# Altium schematic symbol library Componentes_SOC.SchLib: 216 symbols (part 2 of 3)
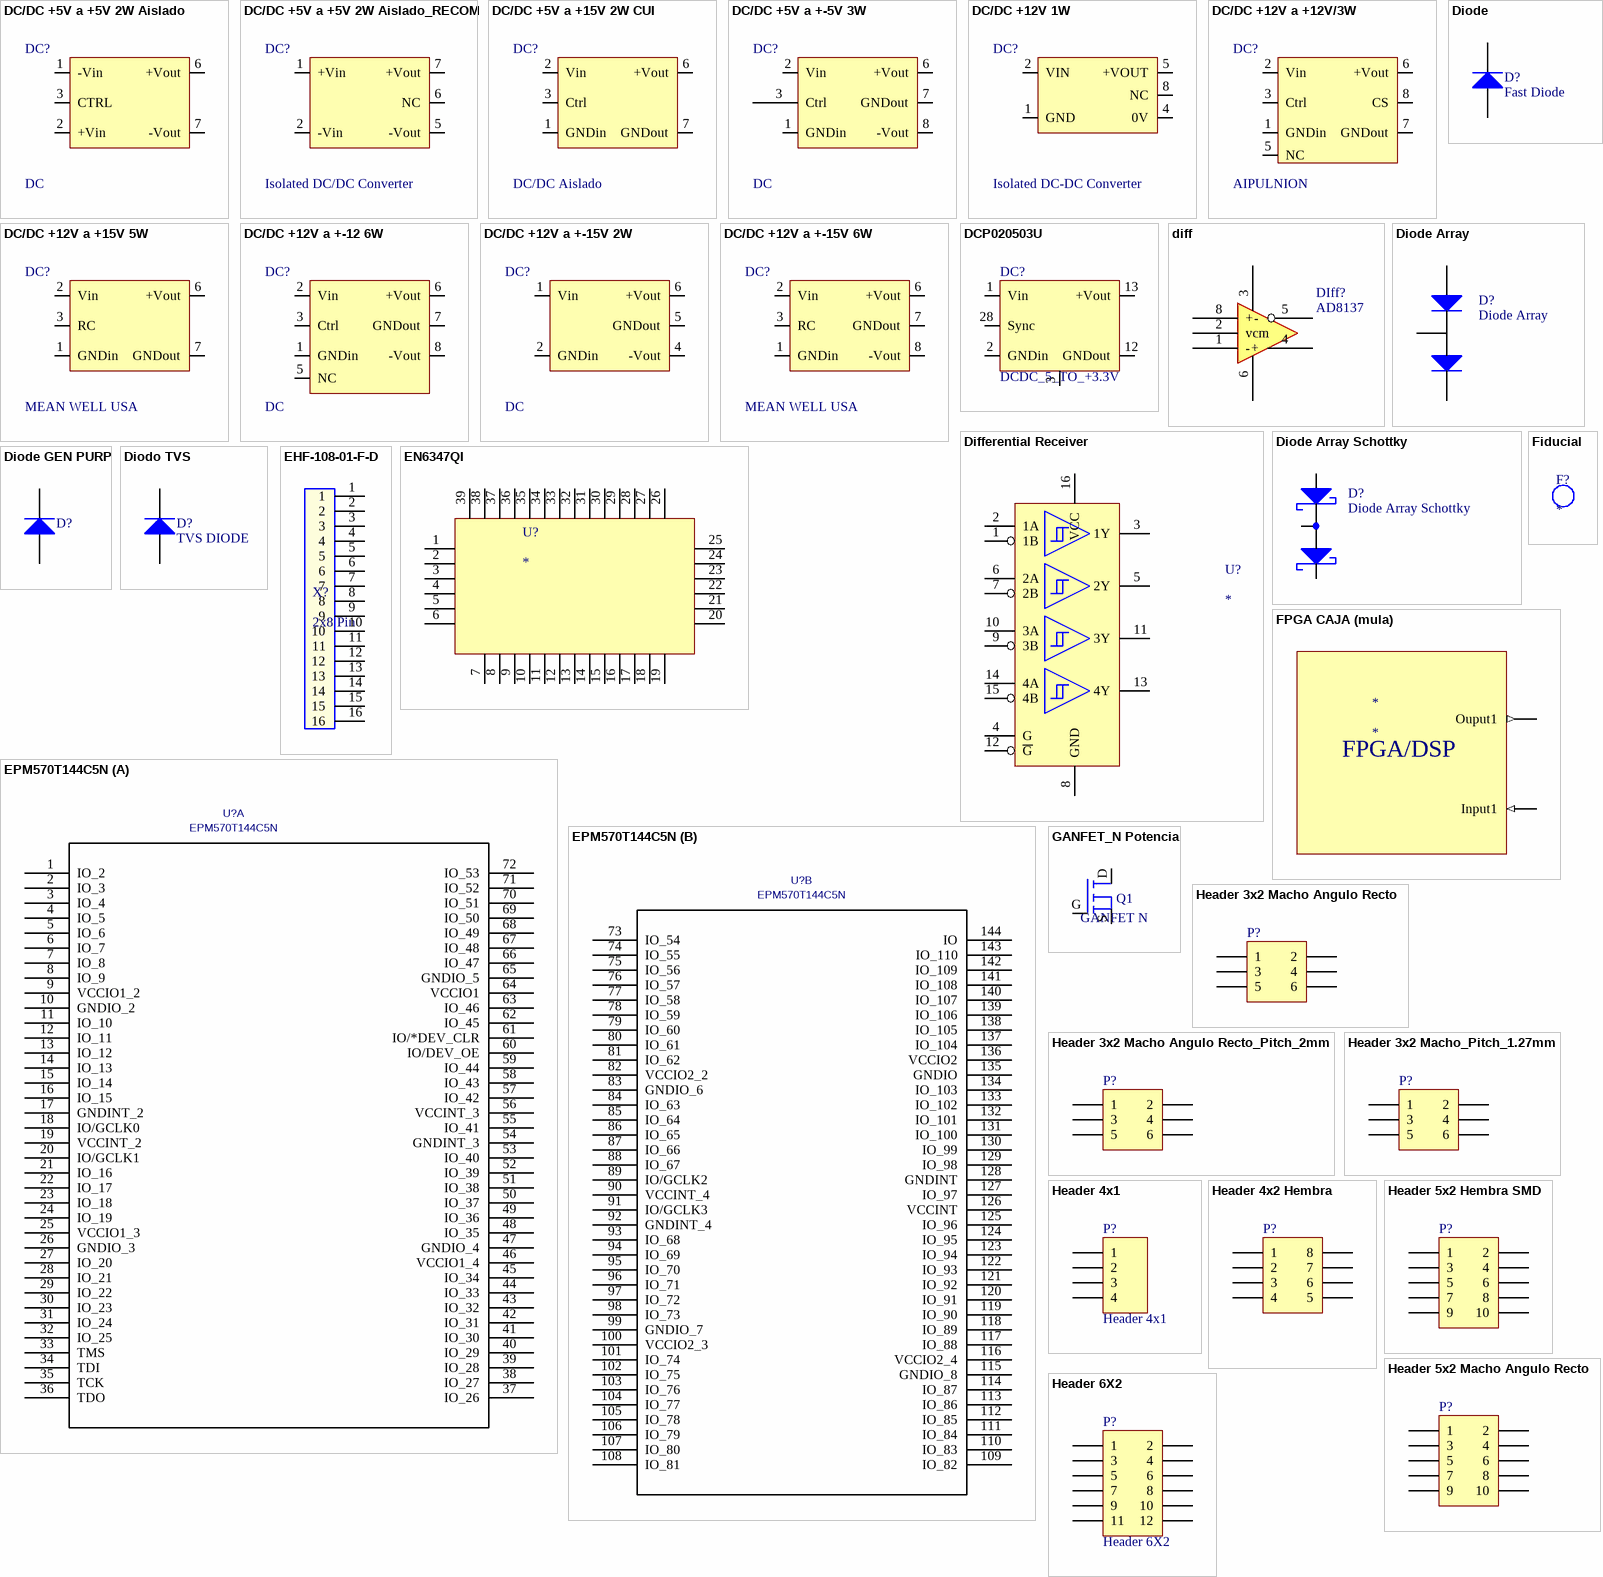
[diagram p11: symbols DC/DC +5V a +5V 2W Aislado to Header 6X2]

## Diode Array
designator D?
DIODE ARRAY GP 100V 215MA SOT23; Manufacturer Part-Number: BAV99,235; Digikey Part-Number: 1727-4311-1-ND
footprint SOT-23 (SOT23, 3-Leads, Body 2.9x1.3mm, Pitch 0.95mm, Lead Span 2.5mm, IPC Medium Density)
pins: 1, 2, 3

## Diode Array Schottky
designator D?
DIODE SCHOTTKY 70V DUAL SOT23; Manufacturer Part-Number: SBAS70-04LT1G; Digikey Part-Number: SBAS70-04LT1GOSCT-ND
footprint SOT-23 (SOT23, 3-Leads, Body 2.9x1.3mm, Pitch 0.95mm, Lead Span 2.5mm, IPC Medium Density)
pins: 1, 2, 3

## Diode GEN PURP
designator D?
DIODE GEN PURP 100V 200MA SOT23; Manufacturer Part-Number: BAS16LT1G; Digikey Part-Number: BAS16LT1GOSCT-ND
footprint SOT-23 (SOT23, 3-Leads, Body 2.9x1.3mm, Pitch 0.95mm, Lead Span 2.5mm, IPC Medium Density)
pins: 1 A, 2 NC hidden, 3 K

## Diodo TVS
designator D?, comment TVS DIODE
TVS DIODE 3.3V 19V SOD323; Manufacturer Part-Number: CDSOD323-T03C; Digikey Part-Number: CDSOD323-T03CCT-ND
footprint SOD-323
pins: 1 K, 2 A

## EHF-108-01-F-D
designator X?, comment 2x8 Pin
Dual Row, 2x8 Shrouded IDC Header with Ejectors 50 mil pitch; MPN: EHF-108-01-F-D; MF: Samtec; Created: 2020_05_Kreppel; Supplier 1: Digikey; Supplier Part Number 1: SAM9265-ND
footprint EHF-108-01-F-D
footprint EHF-108-01-F-D-SM
pins: 1, 2, 3, 4, 5, 6, 7, 8, 9, 10, 11, 12, 13, 14, 15, 16

## EN6347QI
designator U?
DC/DC CONVERTER 0.6-6.24V 25W; Digikey Part-Number: 544-2863-1-ND
footprint 38-QFN (7x4)
pins: 1, 2, 3, 4, 5, 6, 7, 8, 9, 10, 11, 12, 13, 14, 15, 16, 17, 18, 19, 20, 21, 22, 23, 24, 25, 26, 27, 28, 29, 30, 31, 32, 33, 34, 35, 36, 37, 38, 39

## EPM570T144C5N
designator U?
CPLD Altera MAXII; C: Copyright (C) 2015 Accelerated Designs. All rights reserved; Built_By: EMA_UL_Team; Value: EPM570T144C5N; Vendor: Altera; Manufacturer Part-Number: EPM570T144C5N; Digikey Part-Number: 544-1320-ND
footprint 144-TQFP (Pitch 0.5mm)
part A pins: 1 IO_2, 2 IO_3, 3 IO_4, 4 IO_5, 5 IO_6, 6 IO_7, 7 IO_8, 8 IO_9, 9 VCCIO1_2, 10 GNDIO_2, 11 IO_10, 12 IO_11, 13 IO_12, 14 IO_13, 15 IO_14, 16 IO_15, 17 GNDINT_2, 18 IO/GCLK0, 19 VCCINT_2, 20 IO/GCLK1, 21 IO_16, 22 IO_17, 23 IO_18, 24 IO_19, 25 VCCIO1_3, 26 GNDIO_3, 27 IO_20, 28 IO_21, 29 IO_22, 30 IO_23, 31 IO_24, 32 IO_25, 33 TMS, 34 TDI, 35 TCK, 36 TDO, 37 IO_26, 38 IO_27, 39 IO_28, 40 IO_29, 41 IO_30, 42 IO_31, 43 IO_32, 44 IO_33, 45 IO_34, 46 VCCIO1_4, 47 GNDIO_4, 48 IO_35, 49 IO_36, 50 IO_37, 51 IO_38, 52 IO_39, 53 IO_40, 54 GNDINT_3, 55 IO_41, 56 VCCINT_3, 57 IO_42, 58 IO_43, 59 IO_44, 60 IO/DEV_OE, 61 IO/*DEV_CLR, 62 IO_45, 63 IO_46, 64 VCCIO1, 65 GNDIO_5, 66 IO_47, 67 IO_48, 68 IO_49, 69 IO_50, 70 IO_51, 71 IO_52, 72 IO_53
part B pins: 73 IO_54, 74 IO_55, 75 IO_56, 76 IO_57, 77 IO_58, 78 IO_59, 79 IO_60, 80 IO_61, 81 IO_62, 82 VCCIO2_2, 83 GNDIO_6, 84 IO_63, 85 IO_64, 86 IO_65, 87 IO_66, 88 IO_67, 89 IO/GCLK2, 90 VCCINT_4, 91 IO/GCLK3, 92 GNDINT_4, 93 IO_68, 94 IO_69, 95 IO_70, 96 IO_71, 97 IO_72, 98 IO_73, 99 GNDIO_7, 100 VCCIO2_3, 101 IO_74, 102 IO_75, 103 IO_76, 104 IO_77, 105 IO_78, 106 IO_79, 107 IO_80, 108 IO_81, 109 IO_82, 110 IO_83, 111 IO_84, 112 IO_85, 113 IO_86, 114 IO_87, 115 GNDIO_8, 116 VCCIO2_4, 117 IO_88, 118 IO_89, 119 IO_90, 120 IO_91, 121 IO_92, 122 IO_93, 123 IO_94, 124 IO_95, 125 IO_96, 126 VCCINT, 127 IO_97, 128 GNDINT, 129 IO_98, 130 IO_99, 131 IO_100, 132 IO_101, 133 IO_102, 134 IO_103, 135 GNDIO, 136 VCCIO2, 137 IO_104, 138 IO_105, 139 IO_106, 140 IO_107, 141 IO_108, 142 IO_109, 143 IO_110, 144 IO

## Fiducial
designator F?  (no BOM)
Fiducial for Assembler
footprint Fiducial_1.7mm (Fiducial)

## FPGA CAJA (mula)
designator *
pins: 16 Ouput1 (out), 16 Input1 (in)
text: FPGA/DSP

## GANFET_N Potencia
designator Q1, comment GANFET N
GANFET N-CH 650V 27A TO220; Manufacturer Part-Number: TPH3212PS; Digikey Part-Number: TPH3212PS-ND
footprint TO-220 con disipador
pins: D, G, S

## Header 3x2 Macho Angulo Recto
designator P?, comment Connector Header Through Hole, Right Angle 6 position 0.100" (2.54mm)  (value not drawn)
CONN HEADER R/A 10POS 2.54MM; Manufacturer Part-Number: TSW-103-08-F-D-RA; Digikey Part-Number: SAM10330-ND
footprint Header 3x2 Macho angulo recto (P/N: TSW-103-08-F-D-RA)
pins: 1, 2, 3, 4, 5, 6

## Header 3x2 Macho Angulo Recto_Pitch_2mm
designator P?, comment Connector Header Through Hole, Right Angle 6 position 0.0.79" (2mm)  (value not drawn)
Connector Header Through Hole, Right Angle 6 position 0.079" (2.00mm); Manufacturer Part-Number: 0877600616; Digikey Part-Number: WM18613-ND
footprint Header 3x2 Macho angulo recto Pitch 2mm (P/N: 0877600616)
pins: 1, 2, 3, 4, 5, 6

## Header 3x2 Macho_Pitch_1.27mm
designator P?, comment Connector Header Through Hole, Right Angle 6 position 0.0.79" (2mm)  (value not drawn)
Connector Header Through Hole 6 position 0.050" (1.27mm); Manufacturer Part-Number: GRPB032VWVN-RC; Digikey Part-Number: S9015E-03-ND
footprint Header 3x2 Macho Pitch 1.27mm (P/N: GRPB032VWVN-RC)
pins: 1, 2, 3, 4, 5, 6

## Header 4x1
designator P?
Header macho 4x1 SMD pitch 2.54mm; Manufacturer Part-Number: TSM-104-01-T-SV; LatestRevisionDate: 17-Jul-2002; LatestRevisionNote: Re-released for DXP Platform.; Publisher: Altium Limited; Digikey Part-Number: SAM8983-ND
footprint Header 4 posiciones macho SMD (Pitch 2.54mm)
signal-integrity model Connector
pins: 1, 2, 3, 4

## Header 4x2 Hembra
designator P?
Pitch 2.54mm; Manufacturer Part-Number: PPPC042LFBN-RC; Digikey Part-Number: S7107-ND
footprint Header 4x2 hembra (Pitch 2.54mm)
pins: 1, 2, 3, 4, 5, 6, 7, 8

## Header 5x2 Hembra SMD
designator P?, comment CONN HEADER R/A 10POS 2.54MM  (value not drawn)
CONN RCPT 10POS 0.1 GOLD SMD; Manufacturer Part-Number: SSW-105-22-G-D-VS; Digikey Part-Number: SAM11937-ND
footprint Header 5x2 hembra SMD (Pitch 2.54mm P/N: SSW-105-22-G-D-VS)
pins: 1, 2, 3, 4, 5, 6, 7, 8, 9, 10

## Header 5x2 Macho Angulo Recto
designator P?, comment CONN HEADER R/A 10POS 2.54MM  (value not drawn)
Manufacturer Part-Number: TSW-105-25-L-D-RA; Digikey Part-Number: SAM12322-ND
footprint Header 5x2 Macho angulo recto (P/N: TSW-105-25-L-D-RA)
pins: 1, 2, 3, 4, 5, 6, 7, 8, 9, 10

## Header 6X2
designator P?
Header, 6-Pin, Dual row; Manufacturer Part-Number: 0901310126; LatestRevisionDate: 17-Jul-2002; LatestRevisionNote: Re-released for DXP Platform.; Publisher: Altium Limited; Digikey Part-Number: WM50035-12-ND
signal-integrity model Connector
footprint Header 6x2 macho
pins: 1, 2, 3, 4, 5, 6, 7, 8, 9, 10, 11, 12

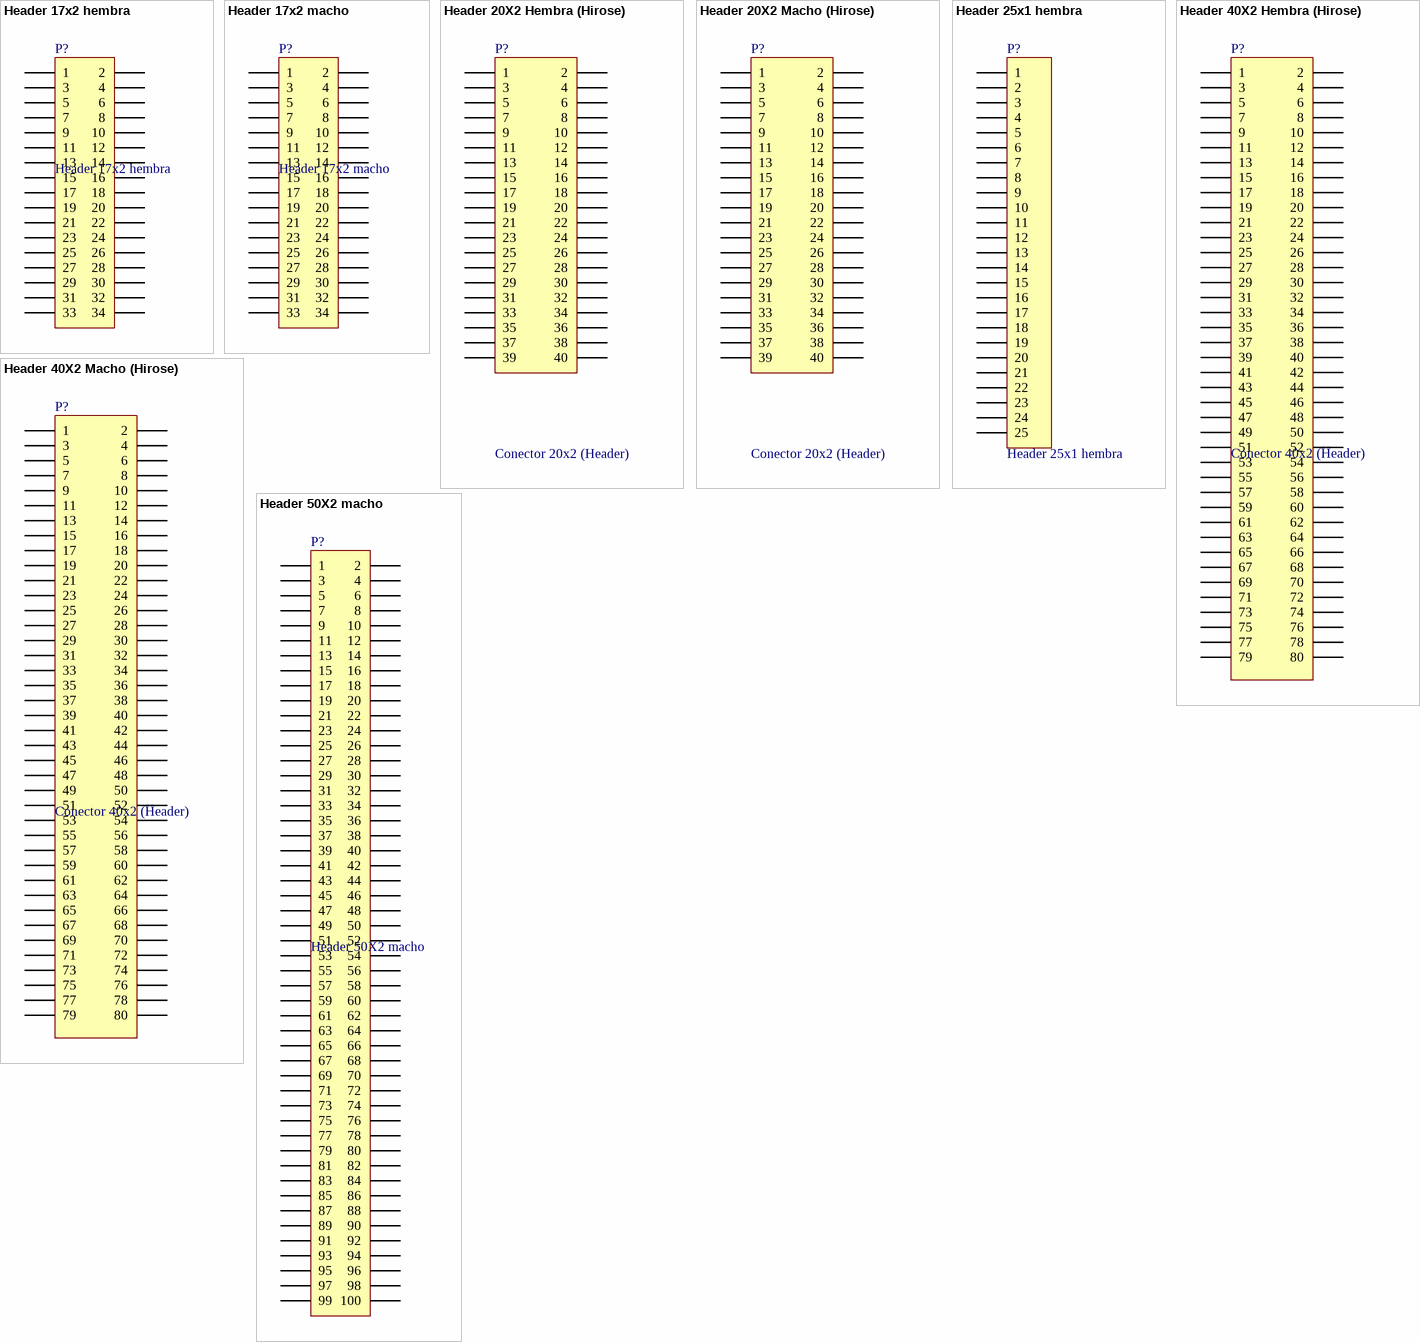
[diagram p6: symbols Header 17x2 hembra to Header 50X2 macho]

## Header 17x2 hembra
designator P?
Header, 17-Pin, Dual row; LatestRevisionDate: 17-Jul-2002; LatestRevisionNote: Re-released for DXP Platform.; Publisher: Altium Limited; Digikey Part-Number: SAM11105-ND
signal-integrity model Connector
footprint Header 17x2 hembra
pins: 1, 2, 3, 4, 5, 6, 7, 8, 9, 10, 11, 12, 13, 14, 15, 16, 17, 18, 19, 20, 21, 22, 23, 24, 25, 26, 27, 28, 29, 30, 31, 32, 33, 34

## Header 17x2 macho
designator P?
Header, 17-Pin, Dual row; LatestRevisionDate: 17-Jul-2002; LatestRevisionNote: Re-released for DXP Platform.; Publisher: Altium Limited; Digikey Part-Number: SAM1066-17-ND
signal-integrity model Connector
footprint Header 17x2 macho
pins: 1, 2, 3, 4, 5, 6, 7, 8, 9, 10, 11, 12, 13, 14, 15, 16, 17, 18, 19, 20, 21, 22, 23, 24, 25, 26, 27, 28, 29, 30, 31, 32, 33, 34

## Header 20X2 Hembra (Hirose)
designator P?, comment Conector 20x2 (Header)
CONN RCPT 40POS 0.5MM SMD; Manufacturer Part-Number: FX20-40S-0.5SV; LatestRevisionDate: 17-Jul-2002; LatestRevisionNote: Re-released for DXP Platform.; Publisher: Altium Limited; Digikey Part-Number: H122374-ND
signal-integrity model Connector
footprint Conector 40 Pines Hembra (SMD pitch 0.5mm 2 filas)
pins: 1, 2, 3, 4, 5, 6, 7, 8, 9, 10, 11, 12, 13, 14, 15, 16, 17, 18, 19, 20, 21, 22, 23, 24, 25, 26, 27, 28, 29, 30, 31, 32, 33, 34, 35, 36, 37, 38, 39, 40

## Header 20X2 Macho (Hirose)
designator P?, comment Conector 20x2 (Header)
CONN HDR 40POS 0.5MM SMD; Manufacturer Part-Number: FX20-40P-0.5SV15; LatestRevisionDate: 17-Jul-2002; LatestRevisionNote: Re-released for DXP Platform.; Publisher: Altium Limited; Digikey Part-Number: H122384-ND
signal-integrity model Connector
footprint Conector 40 Pines Macho (SMD pitch 0.5mm 2 filas)
pins: 1, 2, 3, 4, 5, 6, 7, 8, 9, 10, 11, 12, 13, 14, 15, 16, 17, 18, 19, 20, 21, 22, 23, 24, 25, 26, 27, 28, 29, 30, 31, 32, 33, 34, 35, 36, 37, 38, 39, 40

## Header 25x1 hembra
designator P?
Header 25x1 hembra pines largos; LatestRevisionDate: 17-Jul-2002; LatestRevisionNote: Re-released for DXP Platform.; Publisher: Altium Limited; Digikey Part-Number: SAM1125-25-ND
footprint Header 25x1 hembra (Contact Length - Post 16.66mm. Insulation Height 5.85mm)
signal-integrity model Connector
pins: 1, 2, 3, 4, 5, 6, 7, 8, 9, 10, 11, 12, 13, 14, 15, 16, 17, 18, 19, 20, 21, 22, 23, 24, 25

## Header 40X2 Hembra (Hirose)
designator P?, comment Conector 40x2 (Header)
CONN RCPT 80POS 0.5MM SMD; Manufacturer Part-Number: FX20-80S-0.5SV; LatestRevisionDate: 17-Jul-2002; LatestRevisionNote: Re-released for DXP Platform.; Publisher: Altium Limited; Digikey Part-Number: H122375-ND
signal-integrity model Connector
footprint Conector 80 Pines Hembra (SMD pitch 0.5mm 2 filas)
pins: 1, 2, 3, 4, 5, 6, 7, 8, 9, 10, 11, 12, 13, 14, 15, 16, 17, 18, 19, 20, 21, 22, 23, 24, 25, 26, 27, 28, 29, 30, 31, 32, 33, 34, 35, 36, 37, 38, 39, 40, 41, 42, 43, 44, 45, 46, 47, 48, 49, 50, 51, 52, 53, 54, 55, 56, 57, 58, 59, 60, 61, 62, 63, 64, 65, 66, 67, 68, 69, 70, 71, 72, 73, 74, 75, 76, 77, 78, 79, 80

## Header 40X2 Macho (Hirose)
designator P?, comment Conector 40x2 (Header)
CONN HDR 80POS 0.5MM SMD; Manufacturer Part-Number: FX20-80P-0.5SV15; LatestRevisionDate: 17-Jul-2002; LatestRevisionNote: Re-released for DXP Platform.; Publisher: Altium Limited; Digikey Part-Number: H122385-ND
signal-integrity model Connector
footprint Conector 80 Pines Macho (SMD pitch 0.5mm 2 filas)
pins: 1, 2, 3, 4, 5, 6, 7, 8, 9, 10, 11, 12, 13, 14, 15, 16, 17, 18, 19, 20, 21, 22, 23, 24, 25, 26, 27, 28, 29, 30, 31, 32, 33, 34, 35, 36, 37, 38, 39, 40, 41, 42, 43, 44, 45, 46, 47, 48, 49, 50, 51, 52, 53, 54, 55, 56, 57, 58, 59, 60, 61, 62, 63, 64, 65, 66, 67, 68, 69, 70, 71, 72, 73, 74, 75, 76, 77, 78, 79, 80

## Header 50X2 macho
designator P?
Header, 100-Pin, Dual row; LatestRevisionDate: 17-Jul-2002; LatestRevisionNote: Re-released for DXP Platform.; Publisher: Altium Limited; Digikey Part-Number: SAM12435-ND
signal-integrity model Connector
footprint Header 50x2 macho
pins: 1, 2, 3, 4, 5, 6, 7, 8, 9, 10, 11, 12, 13, 14, 15, 16, 17, 18, 19, 20, 21, 22, 23, 24, 25, 26, 27, 28, 29, 30, 31, 32, 33, 34, 35, 36, 37, 38, 39, 40, 41, 42, 43, 44, 45, 46, 47, 48, 49, 50, 51, 52, 53, 54, 55, 56, 57, 58, 59, 60, 61, 62, 63, 64, 65, 66, 67, 68, 69, 70, 71, 72, 73, 74, 75, 76, 77, 78, 79, 80, 81, 82, 83, 84, 85, 86, 87, 88, 89, 90, 91, 92, 93, 94, 95, 96, 97, 98, 99, 100

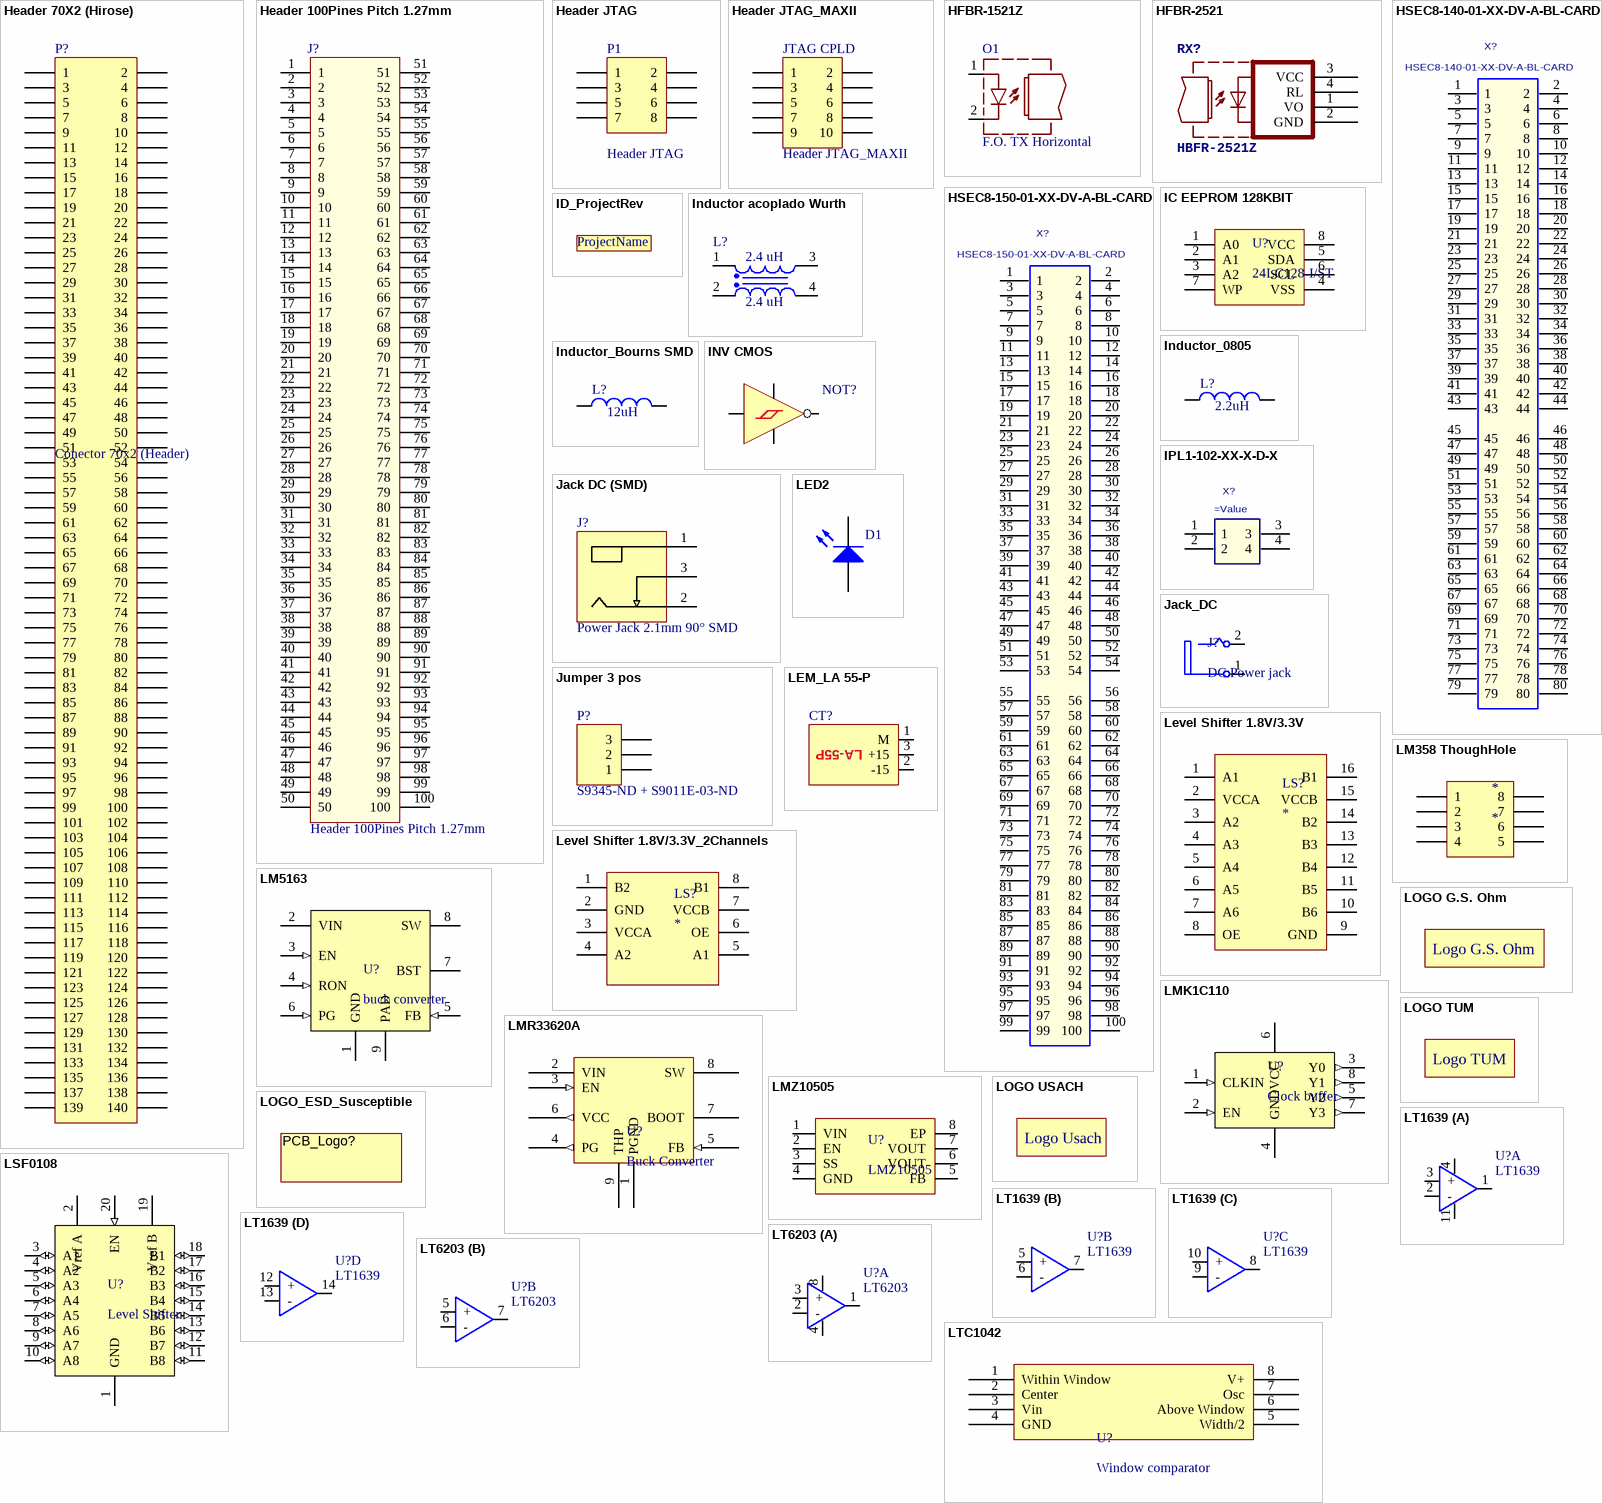
[diagram p7: symbols Header 70X2 (Hirose) to LTC1042]

## Header 70X2 (Hirose)
designator P?, comment Conector 70x2 (Header)
CONN HDR 140POS 0.5MM SMD; Manufacturer Part-Number: FX20-140P-0.5SV15; LatestRevisionDate: 17-Jul-2002; LatestRevisionNote: Re-released for DXP Platform.; Publisher: Altium Limited; Digikey Part-Number: H122387-ND
signal-integrity model Connector
footprint Conector 140Pines Macho (SMD pitch 0.5mm 2 filas)
pins: 1, 2, 3, 4, 5, 6, 7, 8, 9, 10, 11, 12, 13, 14, 15, 16, 17, 18, 19, 20, 21, 22, 23, 24, 25, 26, 27, 28, 29, 30, 31, 32, 33, 34, 35, 36, 37, 38, 39, 40, 41, 42, 43, 44, 45, 46, 47, 48, 49, 50, 51, 52, 53, 54, 55, 56, 57, 58, 59, 60, 61, 62, 63, 64, 65, 66, 67, 68, 69, 70, 71, 72, 73, 74, 75, 76, 77, 78, 79, 80, 81, 82, 83, 84, 85, 86, 87, 88, 89, 90, 91, 92, 93, 94, 95, 96, 97, 98, 99, 100, 101, 102, 103, 104, 105, 106, 107, 108, 109, 110, 111, 112, 113, 114, 115, 116, 117, 118, 119, 120, 121, 122, 123, 124, 125, 126, 127, 128, 129, 130, 131, 132, 133, 134, 135, 136, 137, 138, 139, 140

## Header 100Pines Pitch 1.27mm
designator J?
6-104068-7; Digikey Part-Number: A33560-ND; Manufacturer Part-Number: 6-104068-7
footprint Conector TE 100pines (2 filas) Pitch: 1.27mm (P/N: 6-104068-7)
pins: 1, 2, 3, 4, 5, 6, 7, 8, 9, 10, 11, 12, 13, 14, 15, 16, 17, 18, 19, 20, 21, 22, 23, 24, 25, 26, 27, 28, 29, 30, 31, 32, 33, 34, 35, 36, 37, 38, 39, 40, 41, 42, 43, 44, 45, 46, 47, 48, 49, 50, 51, 52, 53, 54, 55, 56, 57, 58, 59, 60, 61, 62, 63, 64, 65, 66, 67, 68, 69, 70, 71, 72, 73, 74, 75, 76, 77, 78, 79, 80, 81, 82, 83, 84, 85, 86, 87, 88, 89, 90, 91, 92, 93, 94, 95, 96, 97, 98, 99, 100

## Header JTAG
designator P1
Header, 8-Pin, Dual row, Right Angle; Manufacturer Part-Number: TSW-104-22-G-D-RA; LatestRevisionDate: 17-Jul-2002; LatestRevisionNote: Re-released for DXP Platform.; Publisher: Altium Limited; Digikey Part-Number: SAM12314-ND
signal-integrity model Connector
footprint HEADER_JTAG (Connector; Header; 5x2 Position; Right Angle)
pins: 1, 2, 3, 4, 5, 6, 7, 8

## Header JTAG_MAXII
designator JTAG CPLD
Header, 5-Pin, Dual row, Vertical; Manufacturer Part-Number: 3020-10-0100-00; LatestRevisionDate: 17-Jul-2002; LatestRevisionNote: Re-released for DXP Platform.; Publisher: Altium Limited; Digikey Part-Number: 1175-1609-ND
footprint HEADER_JTAG - MAXII Vertical (Connector; Header; 5x2 Position)
signal-integrity model Connector
pins: 1, 2, 3, 4, 5, 6, 7, 8, 9, 10

## HFBR-1521Z
designator O1, comment F.O. TX Horizontal
HFBR-1521Z; Digikey Part-Number: 516-2043-ND
footprint HFBR-15X1V
pins: 1 A, 2 C

## HFBR-2521
designator RX?, comment HBFR-2521Z
Receptor optico horizontal; Digikey Part-Number: 516-2062-ND
footprint HFBR-15X1V
pins: 1 VO, 2 GND (power), 3 VCC (power), 4 RL

## HSEC8-140-01-XX-DV-A-BL-CARD
designator X?
Mating Card Layout for HSEC8-140-01-XX-DV-A-BL; Manufacturer: SAMTEC; Created: 2018_04_23_AGeiger; Value: HSEC8-140-01-XX-DV-A-BL-CARD
footprint HSEC8-140-01-XX-DV-A-BL-CARD
pins: 1, 2, 3, 4, 5, 6, 7, 8, 9, 10, 11, 12, 13, 14, 15, 16, 17, 18, 19, 20, 21, 22, 23, 24, 25, 26, 27, 28, 29, 30, 31, 32, 33, 34, 35, 36, 37, 38, 39, 40, 41, 42, 43, 44, 45, 46, 47, 48, 49, 50, 51, 52, 53, 54, 55, 56, 57, 58, 59, 60, 61, 62, 63, 64, 65, 66, 67, 68, 69, 70, 71, 72, 73, 74, 75, 76, 77, 78, 79, 80

## HSEC8-150-01-XX-DV-A-BL-CARD
designator X?
Mating Card Layout for HSEC8-150-01-XX-DV-A-BL; Manufacturer: SAMTEC; Created: 2018_04_23_AGeiger; Value: HSEC8-150-01-XX-DV-A-BL-CARD
footprint HSEC8-150-01-XX-DV-A-BL-CARD
pins: 1, 2, 3, 4, 5, 6, 7, 8, 9, 10, 11, 12, 13, 14, 15, 16, 17, 18, 19, 20, 21, 22, 23, 24, 25, 26, 27, 28, 29, 30, 31, 32, 33, 34, 35, 36, 37, 38, 39, 40, 41, 42, 43, 44, 45, 46, 47, 48, 49, 50, 51, 52, 53, 54, 55, 56, 57, 58, 59, 60, 61, 62, 63, 64, 65, 66, 67, 68, 69, 70, 71, 72, 73, 74, 75, 76, 77, 78, 79, 80, 81, 82, 83, 84, 85, 86, 87, 88, 89, 90, 91, 92, 93, 94, 95, 96, 97, 98, 99, 100

## IC EEPROM 128KBIT
designator U?, comment 24LC128-I/ST
Digikey Part-Number: 24LC128-I/ST-ND; Manufacturer Part-Number: 24LC128-I/ST
footprint 8-TSSOP (TSSOP, 8 Leads, Body 3.1x4.5mm (max), Pitch 0.65mm, IPC Medium Density)
pins: 1 A0, 2 A1, 3 A2, 4 VSS, 5 SDA, 6 SCL, 7 WP, 8 VCC

## ID_ProjectRev
designator ProjectName, comment Project Name, Rev  (value not drawn)  (no BOM)
Project Name and Revision Number; Created: 2018_11_23_AGeiger; Value: Project Name, Rev
footprint ID_ProjectRev (project name + revision number)

## Inductor acoplado Wurth
designator L?, comment Inductance 1: 2.4 uH  (hidden comment: SMT Shielded Coupled Inductor WE-DD, size 1280, 2.4 uH, 7.8 A)
744870002; Rated Current 1: 7.8 A; DC Resistance max. 1: 0.018 Ohm; Rated Voltage: 80 VDC; Saturation Current: 15 A; Turns Ratio: 1:1; Self Resonant Frequency: 40 MHz; ComponentLink1Description: Manufacturer; ComponentLink1URL: http://www.we-online.de; ComponentLink2Description: Datasheet; ComponentLink2URL: https://katalog.we-online.com/pbs/datasheet/744870002.pdf; Manufacturer Part-Number: 744870002; Published Date: December 2018; Publisher: Wurth Elektronik; Size: 1280; Operating Temperature: -40 to +125 degC; Mounting Technology: SMT; Packaging: Tape and Reel; DC Resistance max. 2: 0.018 Ohm; Rated Current 2: 7.8 A; Inductance 2: 2.4 uH
footprint Inductor acoplado (P/N: 744874002 SMT Shielded Coupled Inductor, 4-Leads, body 12.5x12.5mm)
pins: 1, 2, 3, 4

## Inductor_0805
designator L?, comment 2.2uH
700mA; Manufacturer Part-Number: 74479775222; Code_IEC: 1005; Published: 8-Jun-2000; LatestRevisionDate: 29-May-2009; LatestRevisionNote: IPC-7351 Footprint Added.; PackageReference: 0402-A; Publisher: Altium Limited; PackageDescription: Chip Inductor; Code_JEITA: 0402; Digikey Part-Number: 732-2953-1-ND; Value: 2.2uH
simulation model INDUCTOR (Inductor)
signal-integrity model Inductor
footprint INDUCTOR_0805 (Wurth)
pins: 1, 2

## Inductor_Bourns SMD
designator L?, comment 12uH
1.7A; Manufacturer Part-Number: SRR6038-120Y; Digikey Part-Number: SRR6038-120YCT-ND; Value: 12uH
simulation model INDUCTOR (Inductor)
signal-integrity model Inductor
footprint Inductor Bourns SMD (6.8x6.8mm P/N: SRR6038-120Y)
pins: 1, 2

## INV CMOS
designator NOT?, comment INV_CMOS  (value not drawn)
Part-Number Fabricante: BU4S584G2-TR; Digikey Part-Number: BU4S584G2CT-ND
footprint INV_SN74AHC1G14DBVR (IC SCHMITT-TRG INV GATE SOT23-5)
pins: 1 NC hidden, 2 A, 3 GND, 4 Vcc, 5 Vcc

## IPL1-102-XX-X-D-X
designator X?
2.54mm Double Row Terminal Assembly, Right-Angled; Manufacturer: SAMTEC; Created: 2018_05_02_AGeiger; Value: =MPN
footprint IPL1-102-01-L-D-K
footprint IPL1-102-01-L-D-RA-K
pins: 1, 2, 3, 4

## Jack DC (SMD)
designator J?, comment Power Jack 2.1mm 90° SMD
AN: 26873; Mixed: SMT; Trenz-Stock: Yes; H-ART: 694106106102; HelpURL: B:\ad\adlib\datasheet\694106106102
footprint 694106106102
pins: 1, 2, 3

## Jack_DC
designator J?, comment DC Power jack
Conector Alimentación externa; Manufacturer Part-Number: PJ-037BH; Digikey Part-Number: CP-037BH-ND
footprint JACK_DC_2 (Conector alimentacion externa)
pins: 1 (power) "Sleeve (Ground)", 2 "Tip Normal (Break Contact)"

## Jumper 3 pos
designator P?, comment S9345-ND + S9011E-03-ND
SMD Macho Pitch 1.27mm; LatestRevisionDate: 17-Jul-2002; LatestRevisionNote: Re-released for DXP Platform.; Publisher: Altium Limited
footprint Header 3 posiciones macho SMD (Pitch 1.27mm)
signal-integrity model Connector
pins: 1, 2, 3

## LED2
designator D1, comment LED  (value not drawn)
LED Magenta; Manufacturer Part-Number: LTST-C171GKT; Published: 8-Jun-2000; LatestRevisionDate: 17-Jul-2002; LatestRevisionNote: Re-released for DXP Platform.; PackageDocument: Feb-2002; PackageReference: 3.2X1.6X1.1; Publisher: Altium Limited; Digikey Part-Number: 160-1423-1-ND
simulation model LED2 (Diode)
footprint LED_0805_GREEN (Chip LED, 2-Leads, Body 2.0x1.3mm, IPC Medium Density)
pins: 1 A, 2 K

## LEM_LA 55-P
designator CT?, comment Current Sensor 50A 1 Channel Hall Effect, Closed Loop Bidirectional Module  (value not drawn)
LA 55-P; Manufacturer: LEM USA Inc.; Manufacturer Part-Number: LA 55-P; Digikey Part-Number: 398-1010-ND
footprint LEM_LA 55-P (SENSOR CURRENT 50A TH)
pins: 1 M, 2 -15, 3 +15
text: LA-55P

## Level Shifter 1.8V/3.3V
designator LS?
Level shifter bidireccional 6 canales; Digikey Part-Number: 296-23759-1-ND
footprint TSSO5x6-G16 (Shrink Small Outline; 16 Leads; Body Width 4.4 mm; Pitch 0.65 mm)
pins: 1 A1, 2 VCCA, 3 A2, 4 A3, 5 A4, 6 A5, 7 A6, 8 OE, 9 GND, 10 B6, 11 B5, 12 B4, 13 B3, 14 B2, 15 VCCB, 16 B1

## Level Shifter 1.8V/3.3V_2Channels
designator LS?
Level shifter bidireccional 2 canales; Manufacturer Part-Number: TXB0102DCUR; Digikey Part-Number: 296-22862-1-ND
footprint 8-VSSOP (VSSOP, 8 Leads, Pitch 0.5mm)
pins: 1 B2, 2 GND, 3 VCCA, 4 A2, 5 A1, 6 OE, 7 VCCB, 8 B1

## LM358 ThoughHole
designator *
footprint DIP8
pins: 1, 2, 3, 4, 5, 6, 7, 8

## LM5163
designator U?, comment buck converter
100V Input, 0.5A Synchronous Buck DC/DC Converter with Ultra-low Iq; MPN: LM5163DDAR; MF: Texas Instruments; Created: 2020_05_Kreppel; Supplier 1: Digikey; Supplier Part Number 1: 296-LM5163DDARCT-ND*
footprint SOIC127P600X170_HS-9N (SOIC, 8-Leads, Body 4,90x3,90mm, Pitch 1,27mm, Thermal Pad 3,10x2,60mm, IPC Medium Density)
pins: 1 GND (power), 2 VIN (power), 3 EN (in), 4 RON (in), 5 FB (in), 6 PG (in), 7 BST (power), 8 SW (power), 9 PAD (power)

## LMK1C110
designator U?, comment Clock buffer
1:4 LVCMOS clovk buffer, low-sekw, general-purpose; MPN: LMK1C110; MF: Texas Instruments; Created: 2020_05_Kreppel; Supplier 1: Digikey; Supplier Part Number 1: 296-LMK1C1104PWRCT-ND
footprint TSOP65P640X120-8N (TSOP, 8-Leads, Body 3,00x4,40mm, Pitch 0,65mm, IPC Medium Density)
pins: 1 CLKIN (in), 2 EN (in), 3 Y0 (out), 4 GND (power), 5 Y2 (out), 6 VCC (power), 7 Y3 (out), 8 Y1 (out)

## LMR33620A
designator U?, comment Buck Converter
3.8V to 36V, 2A synchronous step-down converter; MPN: LMR33620A; MF: Texas Instruments; Switching frequency: 400kHz; Created: 4/20 Kreppel; Supplier 1: Digikey; Supplier Part Number 1: 296-51355-1-ND
footprint SOIC127P600X170_HS-9N (SOIC, 8-Leads, Body 4,90x3,90mm, Pitch 1,27mm, Thermal Pad 3,10x2,60mm, IPC Medium Density)
pins: 1 PGND (power), 2 VIN (power), 3 EN (in), 4 PG (out), 5 FB (in), 6 VCC (out), 7 BOOT (power), 8 SW (power), 9 THP

## LMZ10505
designator U?
DC-DC Buck Variable; Manufacturer Part-Number: LMZ10505TZ-ADJ/NOPB; Digikey Part-Number: LMZ10505TZ-ADJ/NOPBCT-ND
footprint TO-PMOD-7
pins: 1 VIN, 2 EN, 3 SS, 4 GND, 5 FB, 6 VOUT, 7 VOUT, 8 EP

## LOGO G.S. Ohm
designator *  (value not drawn)  (no BOM)
footprint Logo G.S.Ohm University (9.5 x 12.6 mm)
text: Logo G.S. Ohm

## LOGO TUM
designator *  (value not drawn)  (no BOM)
footprint Logo TUM (9.5 x 12.6 mm)
text: Logo TUM

## LOGO USACH
designator *  (value not drawn)  (no BOM)
footprint Logo Usach
text: Logo Usach

## LOGO_ESD_Susceptible
designator PCB_Logo?, comment ESD Susceptible  (value not drawn)  (no BOM)
ESD Susceptible Symbol; Created: 2018_11_25_AGeiger; Value: ESD Susceptible
footprint ESD_Overlay_Medium

## LSF0108
designator U?, comment Level Shifter
8-Channel, Bidirectional, Low Delay, Multi-Voltage Level Translator; MPN: LSF0108PWR; MF: Texas Instruments; Created: 2020_05_Kreppel; Supplier 1: Digikey; Supplier Part Number 1: 296-37828-1-ND
footprint TSOP65P640X120-20N (TSOP, 20-Leads, Body 6,50x4,40mm, Pitch 0,65mm, IPC Medium Density)
pins: 1 GND (power), 2 Vref A (power), 3 A1 (io), 4 A2 (io), 5 A3 (io), 6 A4 (io), 7 A5 (io), 8 A6 (io), 9 A7 (io), 10 A8 (io), 11 B8 (io), 12 B7 (io), 13 B6 (io), 14 B5 (io), 15 B4 (io), 16 B3 (io), 17 B2 (io), 18 B1 (io), 19 Vref B (power), 20 EN (in)

## LT1639
designator U?
IC OPAMP GP 4 CIRCUIT 14SO; Manufacturer Part-Number: LT1639HS#PBF; Digikey Part-Number: LT1639HS#PBF-ND
footprint SOIC-14 (SOIC, 14-Leads, Body 8.7x3.9mm, Pitch 1.27mm, IPC Medium Density)
part A pins: 1, 2 -, 3 +, 4 V+, 11 V-
part B pins: 5 +, 6 -, 7
part C pins: 8, 9 -, 10 +
part D pins: 12 +, 13 -, 14

## LT6203
designator U?
IC OPAMP GP 2 CIRCUIT 8MSOP; Manufacturer Part-Number: LT6203CMS8#PBF; Digikey Part-Number: LT6203CMS8#PBF-ND
footprint 8-MSOP (8 Leads, Body 3.1x4.5mm (max), Pitch 0.65mm, IPC Medium Density)
part A pins: 1, 2 -, 3 +, 4, 8
part B pins: 5 +, 6 -, 7

## LTC1042
designator U?, comment Window comparator
Comparador de ventana; Digikey Part-number: LTC1042CN8#PBF-ND
pins: 1 Within Window, 2 Center, 3 Vin, 4 GND, 5 Width/2, 6 Above Window, 7 Osc, 8 V+

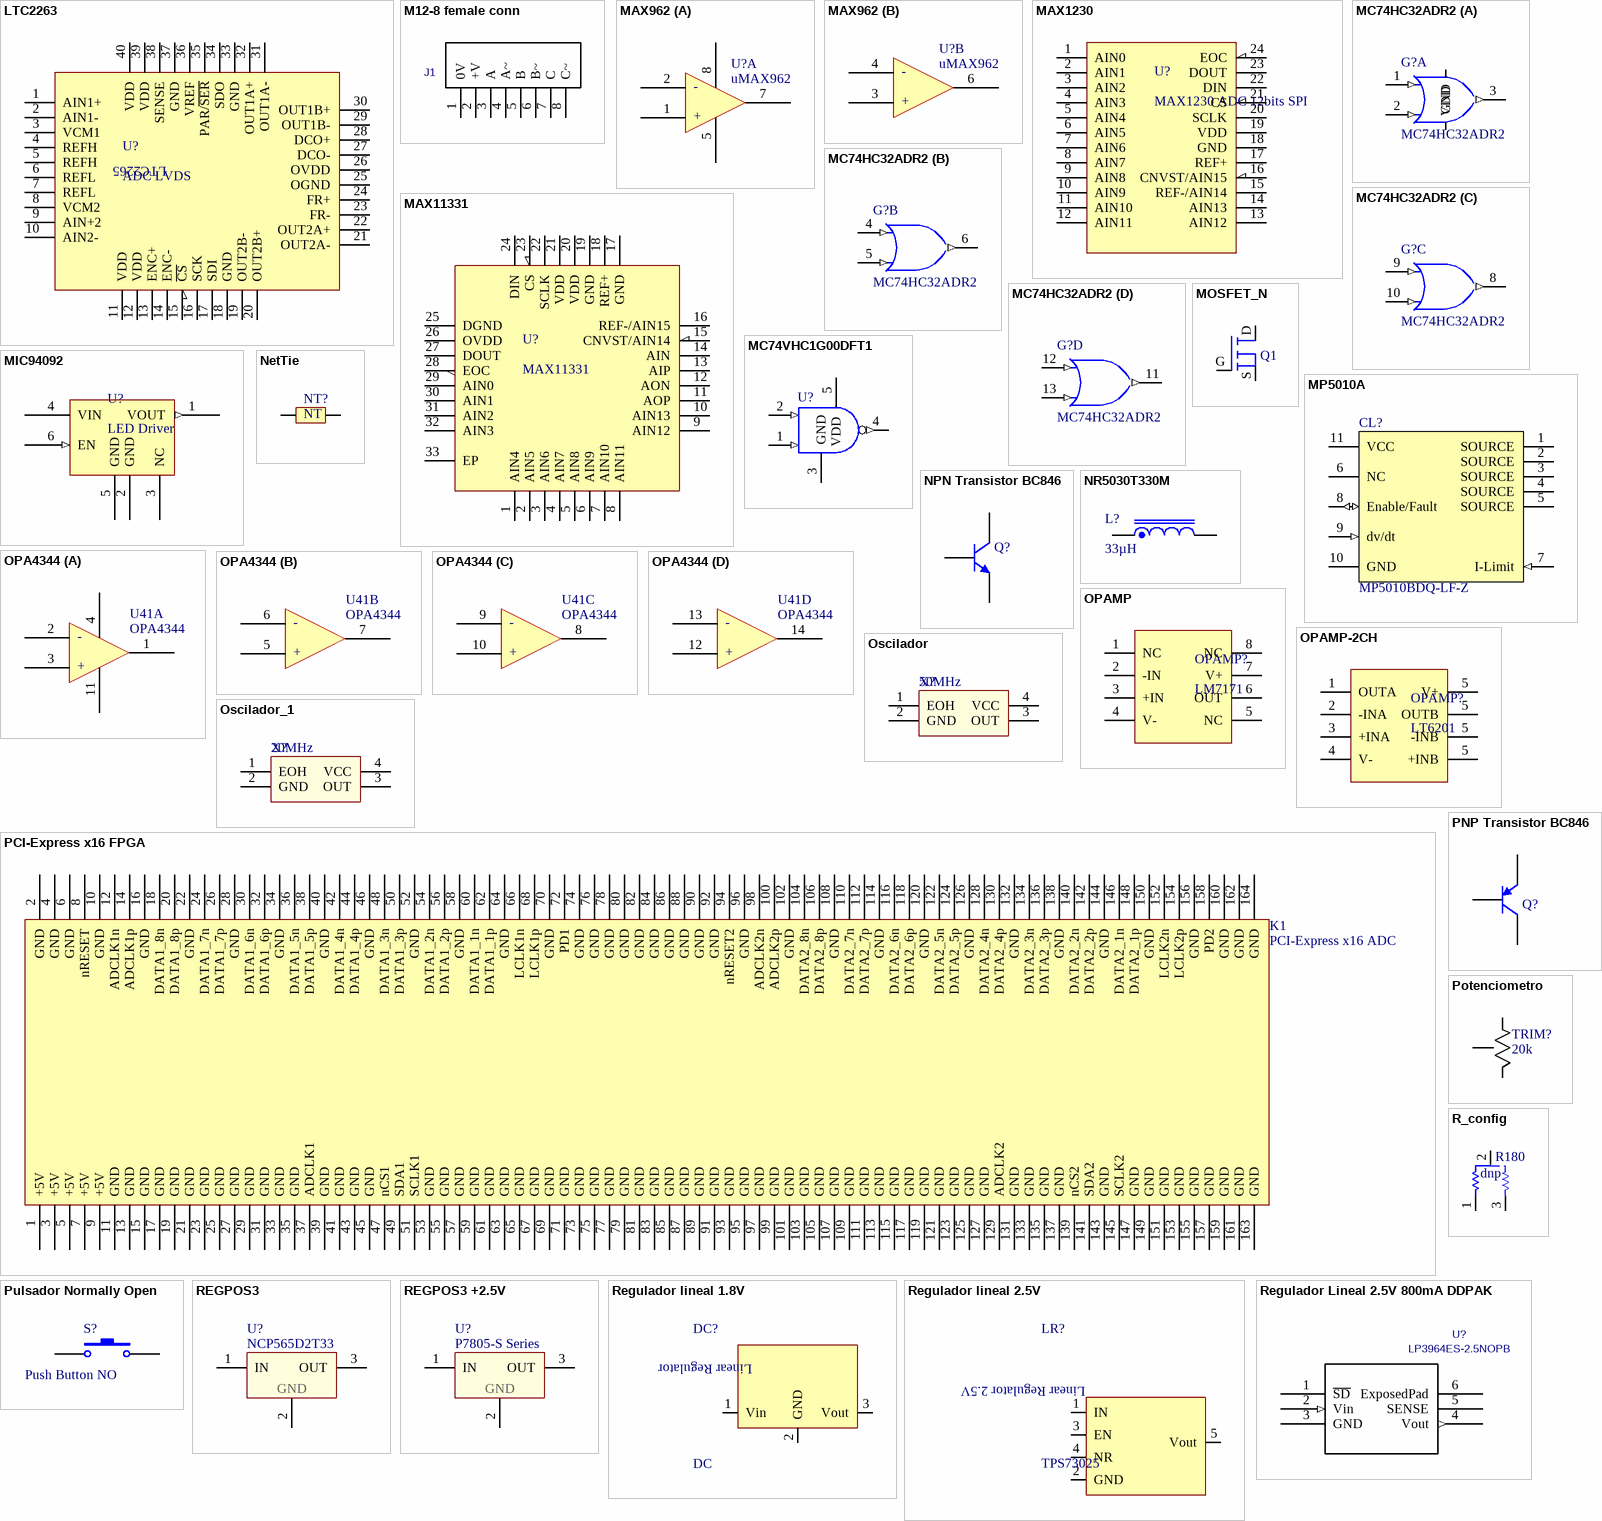
[diagram p8: symbols LTC2263 to Regulador Lineal 2.5V 800mA DDPAK]

## LTC2263
designator U?, comment ADC LVDS
ADC 12 bits SPI LVDS; Digikey Part-Number: LTC2263CUJ-12#PBF-ND
pins: 1 AIN1+, 2 AIN1-, 3 VCM1, 4 REFH, 5 REFH, 6 REFL, 7 REFL, 8 VCM2, 9 AIN+2, 10 AIN2-, 11 VDD, 12 VDD, 13 ENC+, 14 ENC-, 15 ~{CS}, 16 SCK, 17 SDI, 18 GND, 19 OUT2B-, 20 OUT2B+, 21 OUT2A-, 22 OUT2A+, 23 FR-, 24 FR+, 25 OGND, 26 OVDD, 27 DCO-, 28 DCO+, 29 OUT1B-, 30 OUT1B+, 31 OUT1A-, 32 OUT1A+, 33 GND, 34 SDO, 35 PAR/~{SER}, 36 VREF, 37 GND, 38 SENSE, 39 VDD, 40 VDD
text: LTC2265

## M12-8 female conn
designator J1, comment 5-2172071-2  (value not drawn)
Manufacturer: TE Connectivity AMP Connectors; Vendor: TE Connectivity; Value: 5-2172071-2; Manufacturer Part-Number: 5-2172071-2; Built_By: TE CONNECTIVITY; Digikey Part-Number: A121946-ND; RS Part Number: *
footprint M12 8 FEMALE
pins: 1 0V, 2 +V, 3 A, 4 A~, 5 B, 6 B~, 7 C, 8 C~
2 alternate drawings of the same symbol

## MAX962
designator U?, comment uMAX962
IC COMPARATOR BTR 8-UMAX; Manufacturer Part-Number: MAX962EUA+; Digikey Part-Number: MAX962EUA+-ND
footprint 8-MSOP (8 Leads, Body 3.1x4.5mm (max), Pitch 0.65mm, IPC Medium Density)
part A pins: 1 +in a, 2 -in a, 5 GND, 7 out a, 8 VCC
part B pins: 3 +IN B, 4 -IN B, 6 OUT B
part A text: -; +
part B text: -; +

## MAX1230
designator U?, comment MAX1230 ADC 12bits SPI
ADC 12 bits SPI; Digikey Part-Number: MAX1230BEEG+-ND
footprint SSOP24 (SSOP; 24 Leads; Body Width 5.3 mm; Pitch 0.65 mm)
pins: 1 AIN0, 2 AIN1, 3 AIN2, 4 AIN3, 5 AIN4, 6 AIN5, 7 AIN6, 8 AIN7, 9 AIN8, 10 AIN9, 11 AIN10, 12 AIN11, 13 AIN12, 14 AIN13, 15 REF-/AIN14, 16 CNVST/AIN15, 17 REF+, 18 GND, 19 VDD, 20 SCLK, 21 CS, 22 DIN, 23 DOUT, 24 EOC

## MAX11331
designator U?
ADC 12 bits SPI; Manufacturer Part-Number: MAX11331ATJ+; Digikey Part-Number: MAX11331ATJ+-ND
footprint 32-TQFN-EP (5x5) (QFN, 32-Leads with exposed die pad, Body 5.1x5.1mm (max), Pitch 0.50mm, IPC Medium Density)
footprint QFN50P500X500X80-33N-310
pins: 1 AIN4, 2 AIN5, 3 AIN6, 4 AIN7, 5 AIN8, 6 AIN9, 7 AIN10, 8 AIN11, 9 AIN12, 10 AIN13, 11 AOP, 12 AON, 13 AIP, 14 AIN, 15 CNVST/AIN14, 16 REF-/AIN15, 17 GND, 18 REF+, 19 GND, 20 VDD, 21 VDD, 22 SCLK, 23 CS, 24 DIN, 25 DGND, 26 OVDD, 27 DOUT, 28 EOC, 29 AIN0, 30 AIN1, 31 AIN2, 32 AIN3, 33 EP

## MC74HC32ADR2
designator G?
Quad 2-Input OR Gate; Published: 15-Apr-2002; LatestRevisionDate: 13-Apr-2006; LatestRevisionNote: IPC-7351 Footprint Added.; DatasheetVersion: Mar-2000; PackageReference: 751A-03; Publisher: Altium Limited; PackageDescription: 14-Pin Small Outline Integrated Circuit 1.27 mm Pitch; Code_JEDEC: MS-012-AB; Code_IPC: SOIC127P600-14; ComponentLink1Description: Manufacturer Link; ComponentLink1URL: http://www.onsemi.com/; ComponentLink2Description: Datasheet; ComponentLink2URL: http://www.onsemi.com/pub/Collateral/MC74HC32A-D.PDF; Digikey Part-Number: MC74HC32ADR2GOSCT-ND
signal-integrity model MC74HC32ADR2
footprint SOIC-14 (SOIC, 14-Leads, Body 8.7x3.9mm, Pitch 1.27mm, IPC Medium Density)
part A pins: 1 A (in), 2 B (in), 3 Y (out), 7 GND (power), 14 VDD (power)
part B pins: 4 A (in), 5 B (in), 6 Y (out)
part C pins: 8 Y (out), 9 A (in), 10 B (in)
part D pins: 11 Y (out), 12 A (in), 13 B (in)

## MC74VHC1G00DFT1
designator U?  (value not drawn)
2-Input NAND Gate; Manufacturer Part-Number: MC74VHC1G00DFT1G; Published: 15-Apr-2002; LatestRevisionDate: 12-Dec-2006; LatestRevisionNote: IPC-7351 Footprint Added.; DatasheetVersion: Dec-1999; PackageVersion: Oct-1999; PackageReference: 419A-01; Publisher: Altium Limited; PackageDescription: 5-Pin SOT-353 Package 0.65 mm Pitch, 2.1 mm Lead Span; ComponentLink1Description: Manufacturer Link; ComponentLink1URL: http://www.onsemi.com/; ComponentLink2Description: Datasheet; ComponentLink2URL: http://www.onsemi.com/pub/Collateral/MC74VHC1G00-D.PDF; Digikey Part-Number: MC74VHC1G00DFT1GOSTR-ND
footprint SOT-353 (SOT353, 5-Leads, Body 2x1.3mm, Pitch 0.65mm, Lead Span 2.1mm, IPC Medium Density)
pins: 1 B (in), 2 A (in), 3 GND (power), 4 ~{Y} (out), 5 VDD (power)

## MIC94092
designator U?, comment LED Driver
General Purpose High Side Load Switch; MPN: MIC94092YC6-TR; MF: Microchip Technologies; Created: 4/20 Kreppel; Supplier 1: Digikey; Supplier Part Number 1: 576-3488-1-ND
footprint SOT65P210X110-6N (SOT23, 6-Leads, Body 2,03x2,10mm, Pitch 0,65mm, IPC Medium Density)
pins: 1 VOUT (out), 2 GND (power), 3 NC, 4 VIN (power), 5 GND (power), 6 EN (in)

## MOSFET_N
designator Q1, comment MOSFET N  (value not drawn)
2N7002-FDICT-ND; Manufacturer Part-Number: 2N7002-7-F; Digikey Part-Number: 2N7002-FDICT-ND
footprint SOT23_MOD
pins: D, G, S

## MP5010A
designator CL?, comment MP5010BDQ-LF-Z
Current Limiter; AN: 28269; Mixed: SMT; Voltage: 5V; Case: DFN10; HelpURL: B:\AD\adlib\datasheet\MP5010; H-ART: MP5010BDQ-LF-Z; Digikey Part-Number: MP5010BDQ-LF-Z-ND; Manufacturer Part-Number: MP5010BDQ-LF-Z
footprint SON50P300X300X100-11N
pins: 1 SOURCE (power), 2 SOURCE (power), 3 SOURCE (power), 4 SOURCE (power), 5 SOURCE (power), 6 NC, 7 I-Limit (in), 8 Enable/Fault (io), 9 dv/dt (in), 10 GND (power), 11 VCC (power)

## NetTie
designator NT?  (net tie, no BOM)
footprint NetTie
pins: 1, 2
text: NT

## NPN Transistor BC846
designator Q?, comment Transistor NPN  (value not drawn)
NPN Bipolar Transistor; Manufacturer Part-Number: BC846BLT3G; Digikey Part-Number: BC846BLT3GOSCT-ND
footprint SOT-23 (SOT23, 3-Leads, Body 2.9x1.3mm, Pitch 0.95mm, Lead Span 2.5mm, IPC Medium Density)
pins: 1 B, 2 E, 3 C

## NR5030T330M
designator L?, comment 33µH
SMT power Inductor, 33µH, 225m DRC; MPN: NRS5030T330MMGJ; MF: Taiyo Yuden; DCR: 225mOhm; Rated Current: 0.8 A; Supplier 1: Digikey; Supplier Part Number 1: 587-3458-1-ND; Value: 33µH
footprint Inductor 5030
pins: 1, 2

## OPA4344
designator U41
opamp rai to rail 1mV; Manufacturer Part-Number: OPA4344EA/250; Digikey Part-Number: OPA4344EACT-ND
footprint TSSO5X6-G14/X.3 (Shrink Small Outline, TSSOP; 14 Leads; Body Width 4.4 mm; Pitch 0.65 mm)
part A pins: 1 out a, 2 -in a, 3 +in a, 4 v+, 11 v-
part B pins: 5 +in b, 6 -in b, 7 out b
part C pins: 8 out c, 9 -in c, 10 +in c
part D pins: 12 +in d, 13 -in d, 14 out d
part A text: -; +
part B text: -; +
part C text: -; +
part D text: -; +

## OPAMP
designator OPAMP?, comment LM7171
IC OPAMP VFB 200MHZ 8SOIC; Manufacturer Part-Number: LM7171AIM/NOPB; Digikey Part-Number: LM7171AIM/NOPB-ND
footprint SOIC8_N (SOIC, 8-Leads, Body 4.9x3.9mm, Pitch 1.27mm, IPC Medium Density)
pins: 1 NC, 2 -IN, 3 +IN, 4 V-, 5 NC, 6 OUT, 7 V+, 8 NC

## OPAMP-2CH
designator OPAMP?, comment LT6201
Manufacturer Part-Number: LT6201CS8#PBF; Digikey Part-Number: LT6201CS8#PBF-ND
footprint SOIC8_N (SOIC, 8-Leads, Body 4.9x3.9mm, Pitch 1.27mm, IPC Medium Density)
pins: 1 OUTA, 2 -INA, 3 +INA, 4 V-, 5 +INB, 5 -INB, 5 OUTB, 5 V+

## Oscilador
designator X?, comment 50MHz
Oscilador 50MHz; Manufacturer Part-Number: CB3LV-3C-50M0000; Value: 50MHz; Digikey Part-Number: CTX283LVCT-ND
footprint CRYSTALOSC
pins: 1 EOH, 2 GND, 3 OUT, 4 VCC

## Oscilador_1
designator X?, comment 20MHz
Oscilador 20MHz; Manufacturer Part-Number: CB3LV-3I-20M0000; Value: 20MHz; Digikey Part-Number: CTX306LVCT-ND
footprint CRYSTALOSC
pins: 1 EOH, 2 GND, 3 OUT, 4 VCC

## PCI-Express x16 FPGA
designator K1, comment PCI-Express x16 ADC
footprint PCI Express x16_fp
pins: 1 +5V, 2 GND, 3 +5V, 4 GND, 5 +5V, 6 GND, 7 +5V, 8 nRESET, 9 +5V, 10 GND, 11 GND, 12 ADCLK1n, 13 GND, 14 ADCLK1p, 15 GND, 16 GND, 17 GND, 18 DATA1_8n, 19 GND, 20 DATA1_8p, 21 GND, 22 GND, 23 GND, 24 DATA1_7n, 25 GND, 26 DATA1_7p, 27 GND, 28 GND, 29 GND, 30 DATA1_6n, 31 GND, 32 DATA1_6p, 33 GND, 34 GND, 35 GND, 36 DATA1_5n, 37 ADCLK1, 38 DATA1_5p, 39 GND, 40 GND, 41 GND, 42 DATA1_4n, 43 GND, 44 DATA1_4p, 45 GND, 46 GND, 47 nCS1, 48 DATA1_3n, 49 SDA1, 50 DATA1_3p, 51 SCLK1, 52 GND, 53 GND, 54 DATA1_2n, 55 GND, 56 DATA1_2p, 57 GND, 58 GND, 59 GND, 60 DATA1_1n, 61 GND, 62 DATA1_1p, 63 GND, 64 GND, 65 GND, 66 LCLK1n, 67 GND, 68 LCLK1p, 69 GND, 70 GND, 71 GND, 72 PD1, 73 GND, 74 GND, 75 GND, 76 GND, 77 GND, 78 GND, 79 GND, 80 GND, 81 GND, 82 GND, 83 GND, 84 GND, 85 GND, 86 GND, 87 GND, 88 GND, 89 GND, 90 GND, 91 GND, 92 GND, 93 GND, 94 nRESET2, 95 GND, 96 GND, 97 GND, 98 ADCLK2n, 99 GND, 100 ADCLK2p, 101 GND, 102 GND, 103 GND, 104 DATA2_8n, 105 GND, 106 DATA2_8p, 107 GND, 108 GND, 109 GND, 110 DATA2_7n, 111 GND, 112 DATA2_7p, 113 GND, 114 GND, 115 GND, 116 DATA2_6n, 117 GND, 118 DATA2_6p, 119 GND, 120 GND, 121 GND, 122 DATA2_5n, 123 GND, 124 DATA2_5p, 125 GND, 126 GND, 127 GND, 128 DATA2_4n, 129 ADCLK2, 130 DATA2_4p, 131 GND, 132 GND, 133 GND, 134 DATA2_3n, 135 GND, 136 DATA2_3p, 137 GND, 138 GND, 139 nCS2, 140 DATA2_2n, 141 SDA2, 142 DATA2_2p, 143 GND, 144 GND, 145 SCLK2, 146 DATA2_1n, 147 GND, 148 DATA2_1p, 149 GND, 150 GND, 151 GND, 152 LCLK2n, 153 GND, 154 LCLK2p, 155 GND, 156 GND, 157 GND, 158 PD2, 159 GND, 160 GND, 161 GND, 162 GND, 163 GND, 164 GND

## PNP Transistor BC846
designator Q?, comment Transistor PNP  (value not drawn)
PNP Bipolar Transistor; Manufacturer Part-Number: BC856B,215; Digikey Part-Number: 1727-2925-1-ND
footprint SOT-23 (SOT23, 3-Leads, Body 2.9x1.3mm, Pitch 0.95mm, Lead Span 2.5mm, IPC Medium Density)
pins: 1 B, 2 E, 3 C

## Potenciometro
designator TRIM?, comment 20k
Trimmer; Manufacturer Part-Number: 3361P-1-203GLF; Value: 20k; Digikey Part-Number: 3361P-203GLFCT-ND
footprint TRIM_25K (3361P-1-253GLFCT-ND)
pins: a, b, c

## Pulsador Normally Open
designator S?, comment Push Button NO
Pulsador NO SMD Wurth; Manufacturer Part-Number: 430152095836; Digikey Part-Number: 732-7000-1-ND
footprint Push Button SMD (Wurth 6.2x6.2mm P/N: 430152095836)
pins: 1, 2

## R_config
designator R180, comment dnp
Solder 0603 resistor/jumper between pads 1 and 2 for standard function. Solter resistor between pads 2 and 3 for alternative function; MPN: MCWR06X1002FTL; Value: 10k; MF: Multicomp; Voltage: 50V; Power: 100mW; Tolerance: 1%; Created: 2018_09_04_AGeiger; Package: 0603; Supplier Part Number 1: 2447230; Supplier 1: Farnell
footprint 0603_Config (0603 3-Pin Config Footprint)
pins: 1, 2, 3

## REGPOS3
designator U?, comment NCP565D2T33
Reg. Lineal 3.3V; Manufacturer Part-Number: NCP565D2T33R4G; Digikey Part-Number: NCP565D2T33R4GOSCT-ND
footprint DDPAK-3
pins: 1 IN, 2 GND, 3 OUT

## REGPOS3 +2.5V
designator U?, comment P7805-S Series
Reg. Lineal +2.5V; Manufacturer Part-Number: P7805-Q12-S2-S; Digikey Part-Number: 102-2986-5-ND
footprint Regulador lineal 2.5V CUI (CONVERT DC/DC 0.5A 2.5V OUT)
pins: 1 IN, 2 GND, 3 OUT

## Regulador lineal 1.8V
designator DC?, comment DC
Regulador lineal 1.8V; Part-Number Fabricante: 1470-2251-5-ND
footprint Regulador lineal 1.8V
pins: 1 Vin, 2 GND, 3 Vout, 15 NC hidden, 16 NC hidden, 17 NC hidden, 26 NC hidden, 27 NC hidden
text: Linear Regulator

## Regulador lineal 2.5V
designator LR?, comment TPS73025
IC REG LINEAR 2.5V 200MA; Manufacturer Part-Number: TPS73025DBVT; Digikey Part-Number: 296-27056-1-ND
footprint SOT-23-5 (SOT353, 5-Leads, Body 2x1.3mm, Pitch 0.65mm, Lead Span 2.1mm, IPC Medium Density)
pins: 1 IN, 2 GND, 3 EN, 4 NR, 5 Vout, 15 NC hidden, 16 NC hidden, 17 NC hidden, 26 NC hidden, 27 NC hidden
text: Linear Regulator 2.5V

## Regulador Lineal 2.5V 800mA DDPAK
designator U?, comment LP3964ES-2.5NOPB
IC REG LIN 2.5V 800MA DDPAK; Manufacturer Part-Number: LP3964ES-2.5/NOPB; C: Copyright (C) 2015 Accelerated Designs. All rights reserved; Vendor: Texas Instruments; Built_By: EMA_UL_Team; Value: LP3964ES-2.5NOPB; Digikey Part-Number: LP3964ES-2.5/NOPB-ND
footprint DDPAK 5 pines (5 lead)
pins: 1 ~{SD}, 2 Vin (in), 3 GND, 4 Vout (out), 5 SENSE, 6 ExposedPad

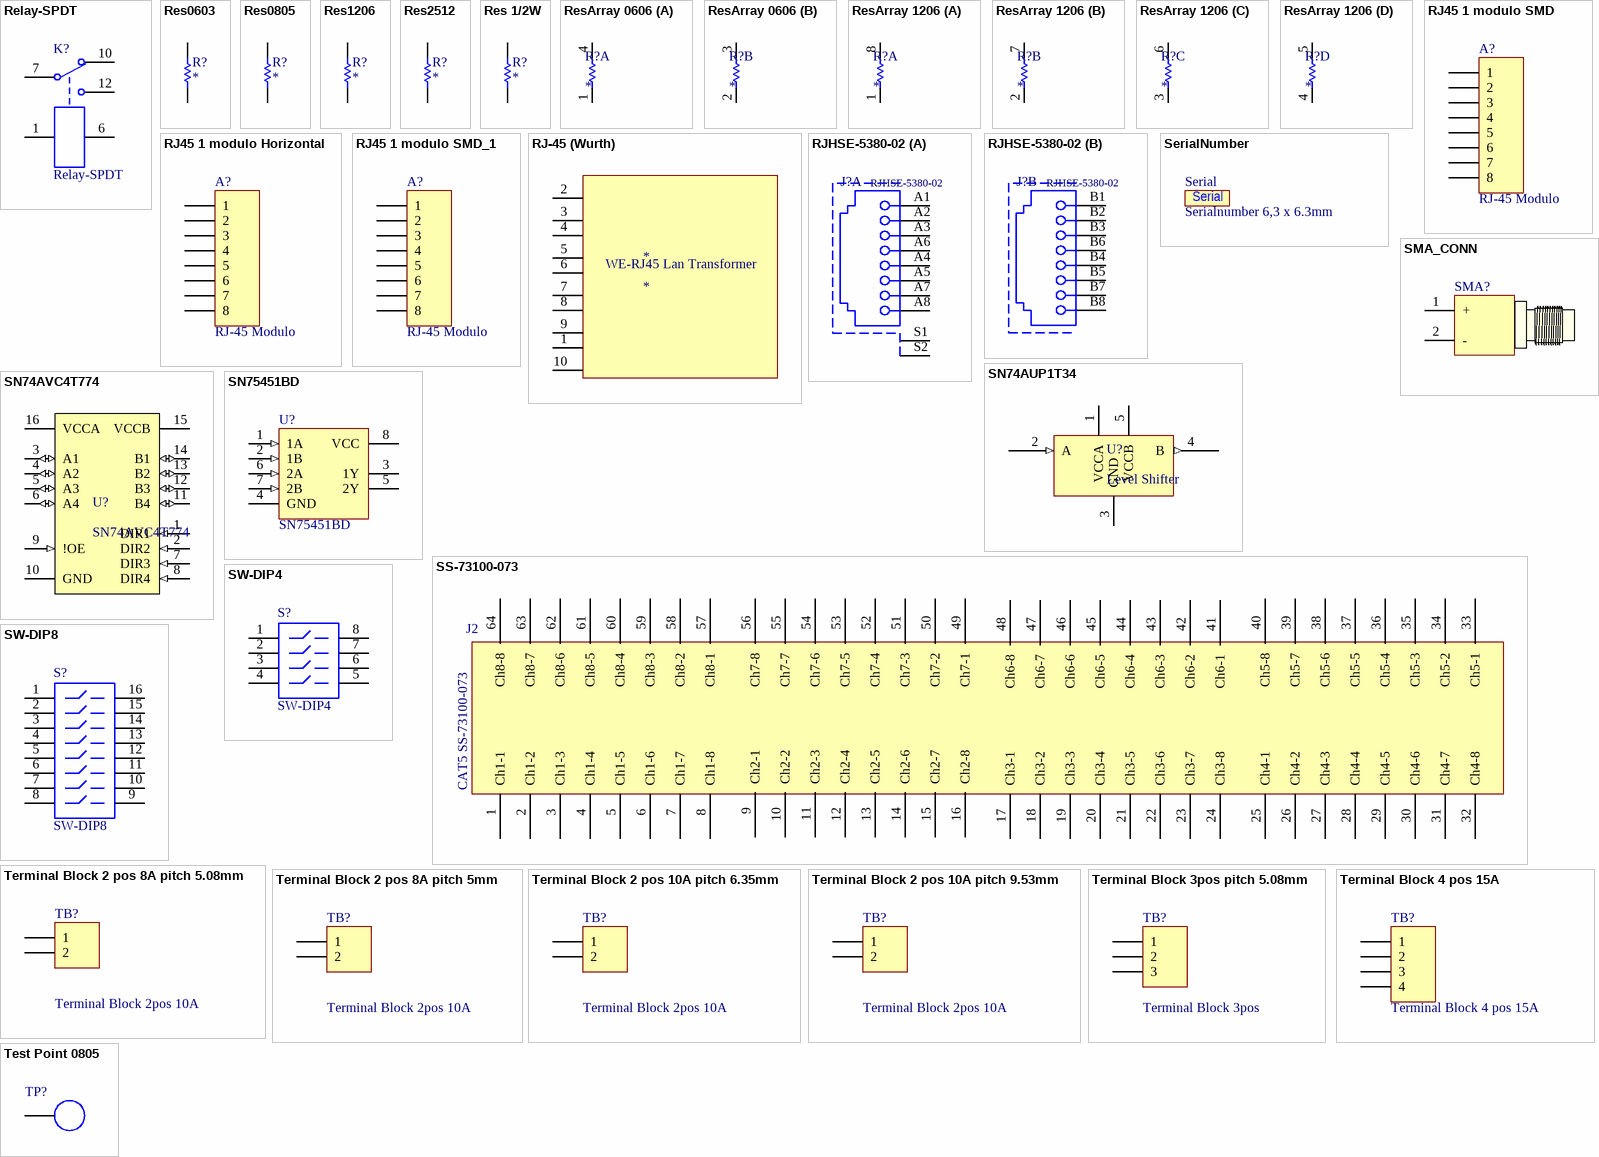
[diagram p9: symbols Relay-SPDT to Test Point 0805]

## Relay-SPDT
designator K?
Relay SPDT 12V Coil; Manufacturer Part-Number: DS1E-M-DC12V; Digikey Part-Number: 255-1473-ND
footprint RELAY_SPDT (P/N: DS1E-M-DC12V)
pins: 1, 6, 7 COM, 10 NC, 12 NO

## Res0603
designator R?
Published: 8-Jun-2000; LatestRevisionDate: 17-Jul-2002; LatestRevisionNote: Re-released for DXP Platform.; PackageReference: AXIAL-0.3; Publisher: Altium Limited; PackageDescription: Axial Device, Thru-Hole; 2 Leads; 0.3 in Pin Spacing; Digikey Part-Number: *; Value: *
simulation model RESISTOR (Resistor)
signal-integrity model Res
footprint RES_0603 (RES 0603)
pins: 1, 2

## Res0805
designator R?
Published: 8-Jun-2000; LatestRevisionDate: 17-Jul-2002; LatestRevisionNote: Re-released for DXP Platform.; PackageReference: AXIAL-0.3; Publisher: Altium Limited; PackageDescription: Axial Device, Thru-Hole; 2 Leads; 0.3 in Pin Spacing; Digikey Part-Number: *; Value: *
simulation model RESISTOR (Resistor)
signal-integrity model Res
footprint RES_0805 (RES 0805)
pins: 1, 2

## Res1206
designator R?
Resistor; Digikey Part-Number: *; Value: *
simulation model RESISTOR (Resistor)
signal-integrity model Res
footprint RES_1206 (RES 1206)
pins: 1, 2

## Res2512
designator R?
Resistor; Digikey Part-Number: *; Value: *; Manufacturer Part-Number: *
simulation model RESISTOR (Resistor)
signal-integrity model Res
footprint RES_2512 (RES 2512)
pins: 1, 2

## Res 1/2W
designator R?
Published: 8-Jun-2000; LatestRevisionDate: 17-Jul-2002; LatestRevisionNote: Re-released for DXP Platform.; PackageReference: AXIAL-0.3; Publisher: Altium Limited; PackageDescription: Axial Device, Thru-Hole; 2 Leads; 0.3 in Pin Spacing; Digikey Part-Number: *; Value: *
simulation model RESISTOR (Resistor)
signal-integrity model Res
footprint Resistencia 1/2W (Through Hole)
pins: 1, 2

## ResArray 0606
designator R?
Chip Resistor Array 1206, 2xR; Value: *; MF: *; MPN: *; Created: Kreppel_0420; Supplier 1: *; Supplier Part Number 1: *
footprint CAF-80P160X100-8N
part A pins: 1, 4 2
part B pins: 2 1, 3 2

## ResArray 1206
designator R?
Chip Resistor Array 0606, 4xR; Value: *; MF: *; MPN: *; Created: Kreppel_0420; Supplier 1: *; Supplier Part Number 1: *
footprint CAC-80P320X160-8N (Chip Array, ConvexS, 8-Leads, Pitch 0,80mm,  Body 3,20x1,60mm,  IPC Medium Density)
part A pins: 1, 8 2
part B pins: 2 1, 7 2
part C pins: 3 1, 6 2
part D pins: 4 1, 5 2

## RJ45 1 modulo Horizontal
designator A?, comment RJ-45 Modulo
Modulo RJ-45 modulo Horizontal; Manufacturer Part-Number: 1-5406299-1; LatestRevisionDate: 17-Jul-2002; LatestRevisionNote: Re-released for DXP Platform.; Publisher: Altium Limited; Digikey Part-Number: A121568-ND
footprint RJ45 - 1x1 (1 conector RJ-45)
signal-integrity model Connector
pins: 1, 2, 3, 4, 5, 6, 7, 8

## RJ45 1 modulo SMD
designator A?, comment RJ-45 Modulo
Modulo RJ-45 vertical SMD; Manufacturer Part-Number: 1-338088-3; LatestRevisionDate: 17-Jul-2002; LatestRevisionNote: Re-released for DXP Platform.; Publisher: Altium Limited; Digikey Part-Number: A99306CT-ND
footprint RJ45 1 Modulo SMD (smd WURTH)
signal-integrity model Connector
pins: 1, 2, 3, 4, 5, 6, 7, 8

## RJ45 1 modulo SMD_1
designator A?, comment RJ-45 Modulo
Modulo RJ-45 vertical Through Hole; Manufacturer Part-Number: 100616-2; Digikey Part-Number: A104932-ND
footprint RJ45 - Vertical (1 conector RJ-45 Through Hole TE Connectivty (100616-2))
signal-integrity model Connector
pins: 1, 2, 3, 4, 5, 6, 7, 8

## RJ-45 (Wurth)
designator *
Manufacturer Part-Number: 7499111447; Digikey Part-Number: 732-4058-ND
footprint RJ45-Individual (Wurth Elektronik)
pins: 1, 2, 3, 4, 5, 6, 7, 8, 9, 10
text: WE-RJ45 Lan Transformer

## RJHSE-5380-02
designator J?
Modular Jack WR-MJ, Tab Up, Shielded, Dual Port, Righ Angle, THT, 8P8C; MF: Amphenol; Port: 1x2; Entrance: Right Angle; Compliance: Lead free / RoHS; Rated Current: 1.5 A; Working Voltage: 120 VAC; Withstanding Voltage: 1000 VAC; Contact Resistance: 20 mOhm; ComponentLink1Description: Manufacturer; ComponentLink1URL: http://www.we-online.de; ComponentLink2Description: Datasheet; ComponentLink2URL: https://katalog.we-online.de/em/datasheet/615016137621.pdf; MPN: RJHSE-5380-02; Published Date: July 2018; Pin Number: 8P8C; Operating Temperature: -40 to 85 degC; Mounting Technology: THT; Packaging: Tray; Supplier 1: Mouser; Supplier Part Number 1: 523-RJHSE-5380-02
footprint RJHSE-5380-02 (Modular Jack Horizontal Shielded Dual Port 8P8C Tab Up)
part A pins: A1, A2, A3, A4, A5, A6, A7, A8, S1, S2
part B pins: B1, B2, B3, B4, B5, B6, B7, B8

## SerialNumber
designator Serial, comment Serialnumber 6,3 x 6.3mm  (no BOM)
Created: 2018_09_18_AGeiger; Value: Serialnumber 6,3 x 6.3mm
footprint Serial_6.3x6.3mm

## SMA_CONN
designator SMA?
CONSMA002-ND
footprint SMA_CONN
footprint SMA_Vertical
pins: 1 +, 2 -

## SN74AUP1T34
designator U?, comment Level Shifter
1-Bit Unidirection Voltage Level Translator; MPN: SN74AUP1T34-Q1; Suppllier Part Number 1: 296-40540-1-ND; MF: Texas Instruments; Created: 2020_04_Kreppel; Supplier 1: Digikey; Package: SC70
footprint TSOP65P210X110-5N (TSOP, 5-Leads, Body 2,00x1,25mm, Pitch 0,65mm, IPC Medium Density)
pins: 1 VCCA (power), 2 A (in), 3 GND (power), 4 B (out), 5 VCCB (power)

## SN74AVC4T774
designator U?
4-Bit Dual-Supply Bus Transceiver With Configurable Voltage-Level Shifting and 3-State Outputs With Independent Direction Control Inputs; MPN: SN74AVC4T77PW; MF: Texas Instruments; Created: 2020_05_Kreppel; Supplier 1: Digikey; Supplier Part Number 1: 296-24739-1-ND
footprint TSOP65P640X120-16N (TSOP, 16-Leads, Body 5,00x4,40mm, Pitch 0,65mm, IPC Medium Density)
pins: 1 DIR1 (in), 2 DIR2 (in), 3 A1 (io), 4 A2 (io), 5 A3 (io), 6 A4 (io), 7 DIR3 (in), 8 DIR4 (in), 9 !OE (in), 10 GND (power), 11 B4 (io), 12 B3 (io), 13 B2 (io), 14 B1 (io), 15 VCCB (power), 16 VCCA (power)

## SN75451BD
designator U?
Dual Peripheral Driver; Manufacturer Part-Number: SN75451BDR; Published: 15-May-2002; LatestRevisionDate: 13-Apr-2006; LatestRevisionNote: IPC-7351 Footprint Added.; DatasheetVersion: May-1990; PackageVersion: Nov-2006; PackageReference: D008; Publisher: Altium Limited; PackageDescription: 8-Pin Small Outline Integrated Circuit 1.27 mm Pitch; Code_JEDEC: MS-012-AA; Code_IPC: SOIC127P600-8; ComponentLink1Description: Manufacturer Link; ComponentLink1URL: http://www.ti.com/; ComponentLink2Description: Datasheet; ComponentLink2URL: http://www-s.ti.com/sc/ds/sn55451b.pdf; Digikey Part-Number: 296-14960-1-ND
footprint SOIC8_N (SOIC, 8-Leads, Body 4.9x3.9mm, Pitch 1.27mm, IPC Medium Density)
3D model D008 (8-Pin Small Outline Integrated Circuit 1.27 mm Pitch)
pins: 1 1A (in), 2 1B (in), 3 1Y (oc), 4 GND (power), 5 2Y (oc), 6 2A (in), 7 2B (in), 8 VCC (power)

## SS-73100-073
designator J2, comment CAT5 SS-73100-073
8p8c RJ45, Stewart Connector, 8 Ch
footprint RJ45-Multiple (8 Channel CAT5 Connector)
pins: 1 Ch1-1, 2 Ch1-2, 3 Ch1-3, 4 Ch1-4, 5 Ch1-5, 6 Ch1-6, 7 Ch1-7, 8 Ch1-8, 9 Ch2-1, 10 Ch2-2, 11 Ch2-3, 12 Ch2-4, 13 Ch2-5, 14 Ch2-6, 15 Ch2-7, 16 Ch2-8, 17 Ch3-1, 18 Ch3-2, 19 Ch3-3, 20 Ch3-4, 21 Ch3-5, 22 Ch3-6, 23 Ch3-7, 24 Ch3-8, 25 Ch4-1, 26 Ch4-2, 27 Ch4-3, 28 Ch4-4, 29 Ch4-5, 30 Ch4-6, 31 Ch4-7, 32 Ch4-8, 33 Ch5-1, 34 Ch5-2, 35 Ch5-3, 36 Ch5-4, 37 Ch5-5, 38 Ch5-6, 39 Ch5-7, 40 Ch5-8, 41 Ch6-1, 42 Ch6-2, 43 Ch6-3, 44 Ch6-4, 45 Ch6-5, 46 Ch6-6, 47 Ch6-7, 48 Ch6-8, 49 Ch7-1, 50 Ch7-2, 51 Ch7-3, 52 Ch7-4, 53 Ch7-5, 54 Ch7-6, 55 Ch7-7, 56 Ch7-8, 57 Ch8-1, 58 Ch8-2, 59 Ch8-3, 60 Ch8-4, 61 Ch8-5, 62 Ch8-6, 63 Ch8-7, 64 Ch8-8

## SW-DIP4
designator S?
DIP Switch; Manufacturer Part-Number: 1571983-5; Published: 24-Mar-1999; LatestRevisionDate: 17-Jul-2002; LatestRevisionNote: Re-released for DXP Platform.; PackageReference: DIP-8; Publisher: Altium Limited; Digikey Part-Number: 450-1762-2-ND
simulation model dpsw4 (Spice Subcircuit)
footprint Dip Switch x 4
pins: 1, 2, 3, 4, 5, 6, 7, 8

## SW-DIP8
designator S?
4009 Series DIP Switch, Raised actuator; Published: 24-Mar-1999; LatestRevisionDate: 17-Dec-2003; LatestRevisionNote: PCB Footprint replaced.; PackageReference: DIP-16-KEY; Publisher: Altium Limited; PackageDescription: DIP; 16 Leads; Row Spacing 7.62 mm; Pitch 2.54 mm; ComponentLink1Description: Manufacturer Link; ComponentLink1URL: http://www.oupiin.com/prodindx.html#Headers
simulation model dpsw8 (Spice Subcircuit)
footprint DIP SWITCH SW-8 (Pitch 1.27mm 8 switches)
pins: 1, 2, 3, 4, 5, 6, 7, 8, 9, 10, 11, 12, 13, 14, 15, 16

## Terminal Block 2 pos 8A pitch 5.08mm
designator TB?, comment Terminal Block 2pos 10A
Wurth Electronics Inc.; Manufacturer Part-Number: 691236510002; Digikey Part-Number: 732-10995-ND
footprint Terminal Block 2 pos Pitch 5.08mm (Wurth Electronics Inc. Pitch=5.08mm)
pins: 1, 2

## Terminal Block 2 pos 8A pitch 5mm
designator TB?, comment Terminal Block 2pos 10A
Wurth Electronics Inc.; Manufacturer Part-Number: 691111710002; Digikey Part-Number: 732-2030-ND
footprint Terminal Block 2 pos 8A (Wurth Electronics Inc. Pitch=5mm)
footprint Terminal Block 2 pos 10A - duplicate1 (On Shore Technology Inc. Pitch=6.35mm)
pins: 1, 2

## Terminal Block 2 pos 10A pitch 6.35mm
designator TB?, comment Terminal Block 2pos 10A
On Shore Technology Inc. Through Hole; Manufacturer Part-Number: OSTYK22102030; Digikey Part-Number: ED2958-ND
footprint Terminal Block 2 pos 10A (Molex (P/N: 0387206302) Pitch=9.53mm)
footprint Terminal Block 2 pos 10A - duplicate1 (On Shore Technology Inc. Pitch=6.35mm)
pins: 1, 2

## Terminal Block 2 pos 10A pitch 9.53mm
designator TB?, comment Terminal Block 2pos 10A
Molex Through Hole; Manufacturer Part-Number: 0387206302; Digikey Part-Number: WM13926-ND
footprint Terminal Block 2 pos 10A (Molex (P/N: 0387206302) Pitch=9.53mm)
footprint Terminal Block 2 pos 10A - duplicate1 (On Shore Technology Inc. Pitch=6.35mm)
pins: 1, 2

## Terminal Block 3pos pitch 5.08mm
designator TB?, comment Terminal Block 3pos
Wurth Electronics Inc.; Manufacturer Part-Number: 691236510003; Digikey Part-Number: 732-10996-ND
footprint Terminal Block 3 pos Pitch 5.08mm
footprint Terminal Block 2 pos 10A - duplicate1 (On Shore Technology Inc. Pitch=6.35mm)
pins: 1, 2, 3

## Terminal Block 4 pos 15A
designator TB?
Molex Through Hole; Manufacturer Part-Number: 0387206304; LatestRevisionDate: 17-Jul-2002; LatestRevisionNote: Re-released for DXP Platform.; Publisher: Altium Limited; Digikey Part-Number: WM5742-ND
footprint Terminal Block 4 pos 15A (Molex)
signal-integrity model Connector
pins: 1, 2, 3, 4

## Test Point 0805
designator TP?  (value not drawn)
Surface Mount Test Points; Manufacturer Part-Number: RCT-0C; Digikey Part-Number: A106144CT-ND
footprint Test Point 0805 (TE Connectivity AMP Connectors P/N: RCT-0C)
pins: 1 TP

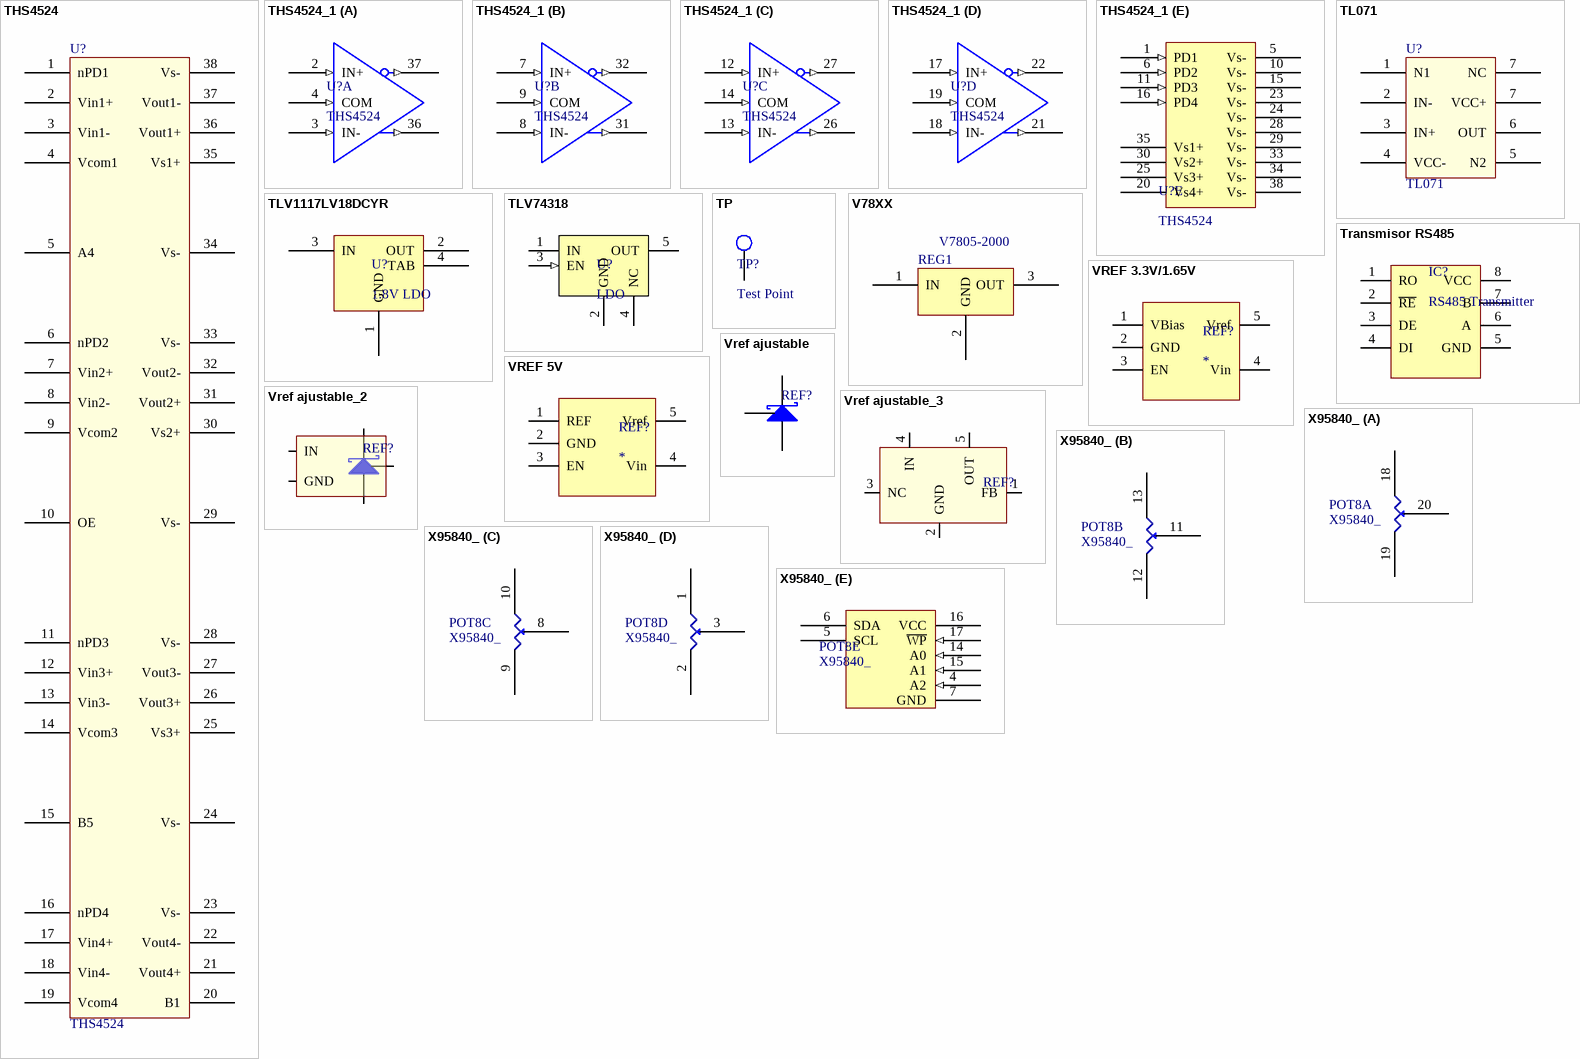
[diagram p10: symbols THS4524 to X95840_]

## THS4524
designator U?
IC OPAMP DIFF 95MHZ RRO 38TSSOP; Manufacturer Part-Number: THS4524IDBTR; Digikey Part-Number: 296-24315-1-ND
footprint TSSOP38
pins: 1 nPD1, 2 Vin1+, 3 Vin1-, 4 Vcom1, 5 A4, 6 nPD2, 7 Vin2+, 8 Vin2-, 9 Vcom2, 10 OE, 11 nPD3, 12 Vin3+, 13 Vin3-, 14 Vcom3, 15 B5, 16 nPD4, 17 Vin4+, 18 Vin4-, 19 Vcom4, 20 B1, 21 Vout4+, 22 Vout4-, 23 Vs-, 24 Vs-, 25 Vs3+, 26 Vout3+, 27 Vout3-, 28 Vs-, 29 Vs-, 30 Vs2+, 31 Vout2+, 32 Vout2-, 33 Vs-, 34 Vs-, 35 Vs1+, 36 Vout1+, 37 Vout1-, 38 Vs-

## THS4524_1
designator U?, comment THS4524
Quad Channel fully differential Amplilfier; MF: Texas Instruments; Created: 20190720_Kreppel; MPN: THS4524; Package: TSSOP-38; Supplier 1: Mouser; Supplier Part Number 1: 595-THS4524IDBTR
footprint THS4524 Footprint (THS4524 4Ch Dif Amp, TSSOP)
part A pins: 2 IN+ (in), 3 IN- (in), 4 COM (in), 36 OUT+ (out), 37 OUT- (out)
part B pins: 7 IN+ (in), 8 IN- (in), 9 COM (in), 31 OUT+ (out), 32 OUT- (out)
part C pins: 12 IN+ (in), 13 IN- (in), 14 COM (in), 26 OUT+ (out), 27 OUT- (out)
part D pins: 17 IN+ (in), 18 IN- (in), 19 COM (in), 21 OUT+ (out), 22 OUT- (out)
part E pins: 1 PD1 (in), 5 Vs- (power), 6 PD2 (in), 10 Vs- (power), 11 PD3 (in), 15 Vs-, 16 PD4 (in), 20 Vs4+ (power), 23 Vs- (power), 24 Vs- (power), 25 Vs3+ (power), 28 Vs- (power), 29 Vs- (power), 30 Vs2+ (power), 33 Vs- (power), 34 Vs- (power), 35 Vs1+ (power), 38 Vs- (power)

## TL071
designator U?
IC OPAMP JFET 3MHZ 8SOIC; Manufacturer Part-Number: TL071CDR; Digikey Part-Number: 296-14994-1-ND
footprint SOIC8_N (SOIC, 8-Leads, Body 4.9x3.9mm, Pitch 1.27mm, IPC Medium Density)
pins: 1 N1, 2 IN-, 3 IN+, 4 VCC-, 5 N2, 6 OUT, 7 VCC+, 7 NC

## TLV1117LV18DCYR
designator U?, comment 1.8V LDO
1A Positive 1.8V Fixed-Voltage Low-Dropout Regulator; MPN: TLV1117LV18DCYR; MF: Texas Instruments; Voltage Input Max: 5.5 V; Created: 2020_04_Kreppel; Supplier 1: Digikey; Supplier Part Number 1: 296-28777-1-ND; Voltage Output: 1.8 V; Current Max: 1 A
footprint SOT230P700X170-4N (SOT223, 4-Leads, Body 6,50x7,00mm (avg), Pitch 2,30mm, IPC Medium Density)
pins: 1 GND (power), 2 OUT (power), 3 IN (power), 4 TAB (power)

## TLV74318
designator U?, comment LDO
0.3A Low-Dropout Regulator; MPN: TLV74318PDBVR; MF: Texas Instruments; Created: 2020_05_Kreppel; Supplier 1: Digikey; Supplier Part Number 1: 296-48712-1-ND
footprint SOT-23-5 (SOT353, 5-Leads, Body 2x1.3mm, Pitch 0.65mm, Lead Span 2.1mm, IPC Medium Density)
pins: 1 IN (power), 2 GND (power), 3 EN (in), 4 NC, 5 OUT (power)

## TP
designator TP?, comment Test Point
1.6mm Test Point Keystone; MPN: 5006; MF: Keystone Electronics; Created: 2020_04_Kreppel; Supplier 1: Digikey; Supplier Part Number 1: 36-5006-ND
footprint TP_1.6mm
pins: 1

## Transmisor RS485
designator IC?, comment RS485 Transmitter
IC TRANSCEIVER HALF 1/1 8SOIC; Manufacturer Part-Number: SN75HVD08DR; Digikey Part-Number: 296-37893-1-ND
footprint SOIC8_N (SOIC, 8-Leads, Body 4.9x3.9mm, Pitch 1.27mm, IPC Medium Density)
pins: 1 RO, 2 ~{RE}, 3 DE, 4 DI, 5 GND, 6 A, 7 B, 8 VCC

## V78XX
designator REG1, comment V7805-2000
DC/DC Converter; Manufacturer Part-Number: V7805-2000R; Digikey Part-Number: 102-2188-ND
footprint REG_SW 5V (DC/DC Converter P/N: V7805-2000R)
pins: 1 IN, 2 GND, 3 OUT

## VREF 3.3V/1.65V
designator REF?
Digikey Part-Number: 296-40487-1-ND
footprint SOT-353 (SOT353, 5-Leads, Body 2x1.3mm, Pitch 0.65mm, Lead Span 2.1mm, IPC Medium Density)
pins: 1 VBias, 2 GND, 3 EN, 4 Vin, 5 Vref

## VREF 5V
designator REF?
LM4120; Manufacturer Part-Number: LM4120AIM5-5.0/NOPB; Digikey Part-Number: LM4120AIM5-5.0/NOPBCT-ND
footprint SOT-23-5 (SOT353, 5-Leads, Body 2x1.3mm, Pitch 0.65mm, Lead Span 2.1mm, IPC Medium Density)
pins: 1 REF, 2 GND, 3 EN, 4 Vin, 5 Vref

## Vref ajustable
designator REF?, comment TL431  (value not drawn)
Referencia de tensión Ajustable; Manufacturer Part-Number: TL431ACDBZR; Digikey Part-Number: 296-17328-1-ND
footprint SOT-23_N (SOT23, 3-Leads, Body 2.9x1.3mm, Pitch 0.95mm, Lead Span 2.5mm, IPC Medium Density)
footprint SOT-23_L (SOT23, 3-Leads, Body 2.9x1.3mm, Pitch 0.95mm, Lead Span 2.5mm, IPC High Density)
footprint SOT-23_M (SOT23, 3-Leads, Body 2.9x1.3mm, Pitch 0.95mm, Lead Span 2.5mm, IPC Low Density)
simulation model BAS70 (DIODE)
pins: 1 K, 2 Ref, 3 A

## Vref ajustable_2
designator REF?, comment ZXRE160  (value not drawn)
Referencia de tensión Ajustable min 0.2V; Manufacturer Part-Number: ZXRE160H5TA; Digikey Part-Number: ZXRE160H5TADICT-ND
simulation model BAS70 (DIODE)
footprint SOT-353 (SOT353, 5-Leads, Body 2x1.3mm, Pitch 0.65mm, Lead Span 2.1mm, IPC Medium Density)
pins: 1 PGND, 2 GND, 3 IN, 4 Feedback, 5 Out